# EAGLE library part XC2VP125* (library Xilinx_VirtexII_Pro)
Xilinx Virtex II Pro Device
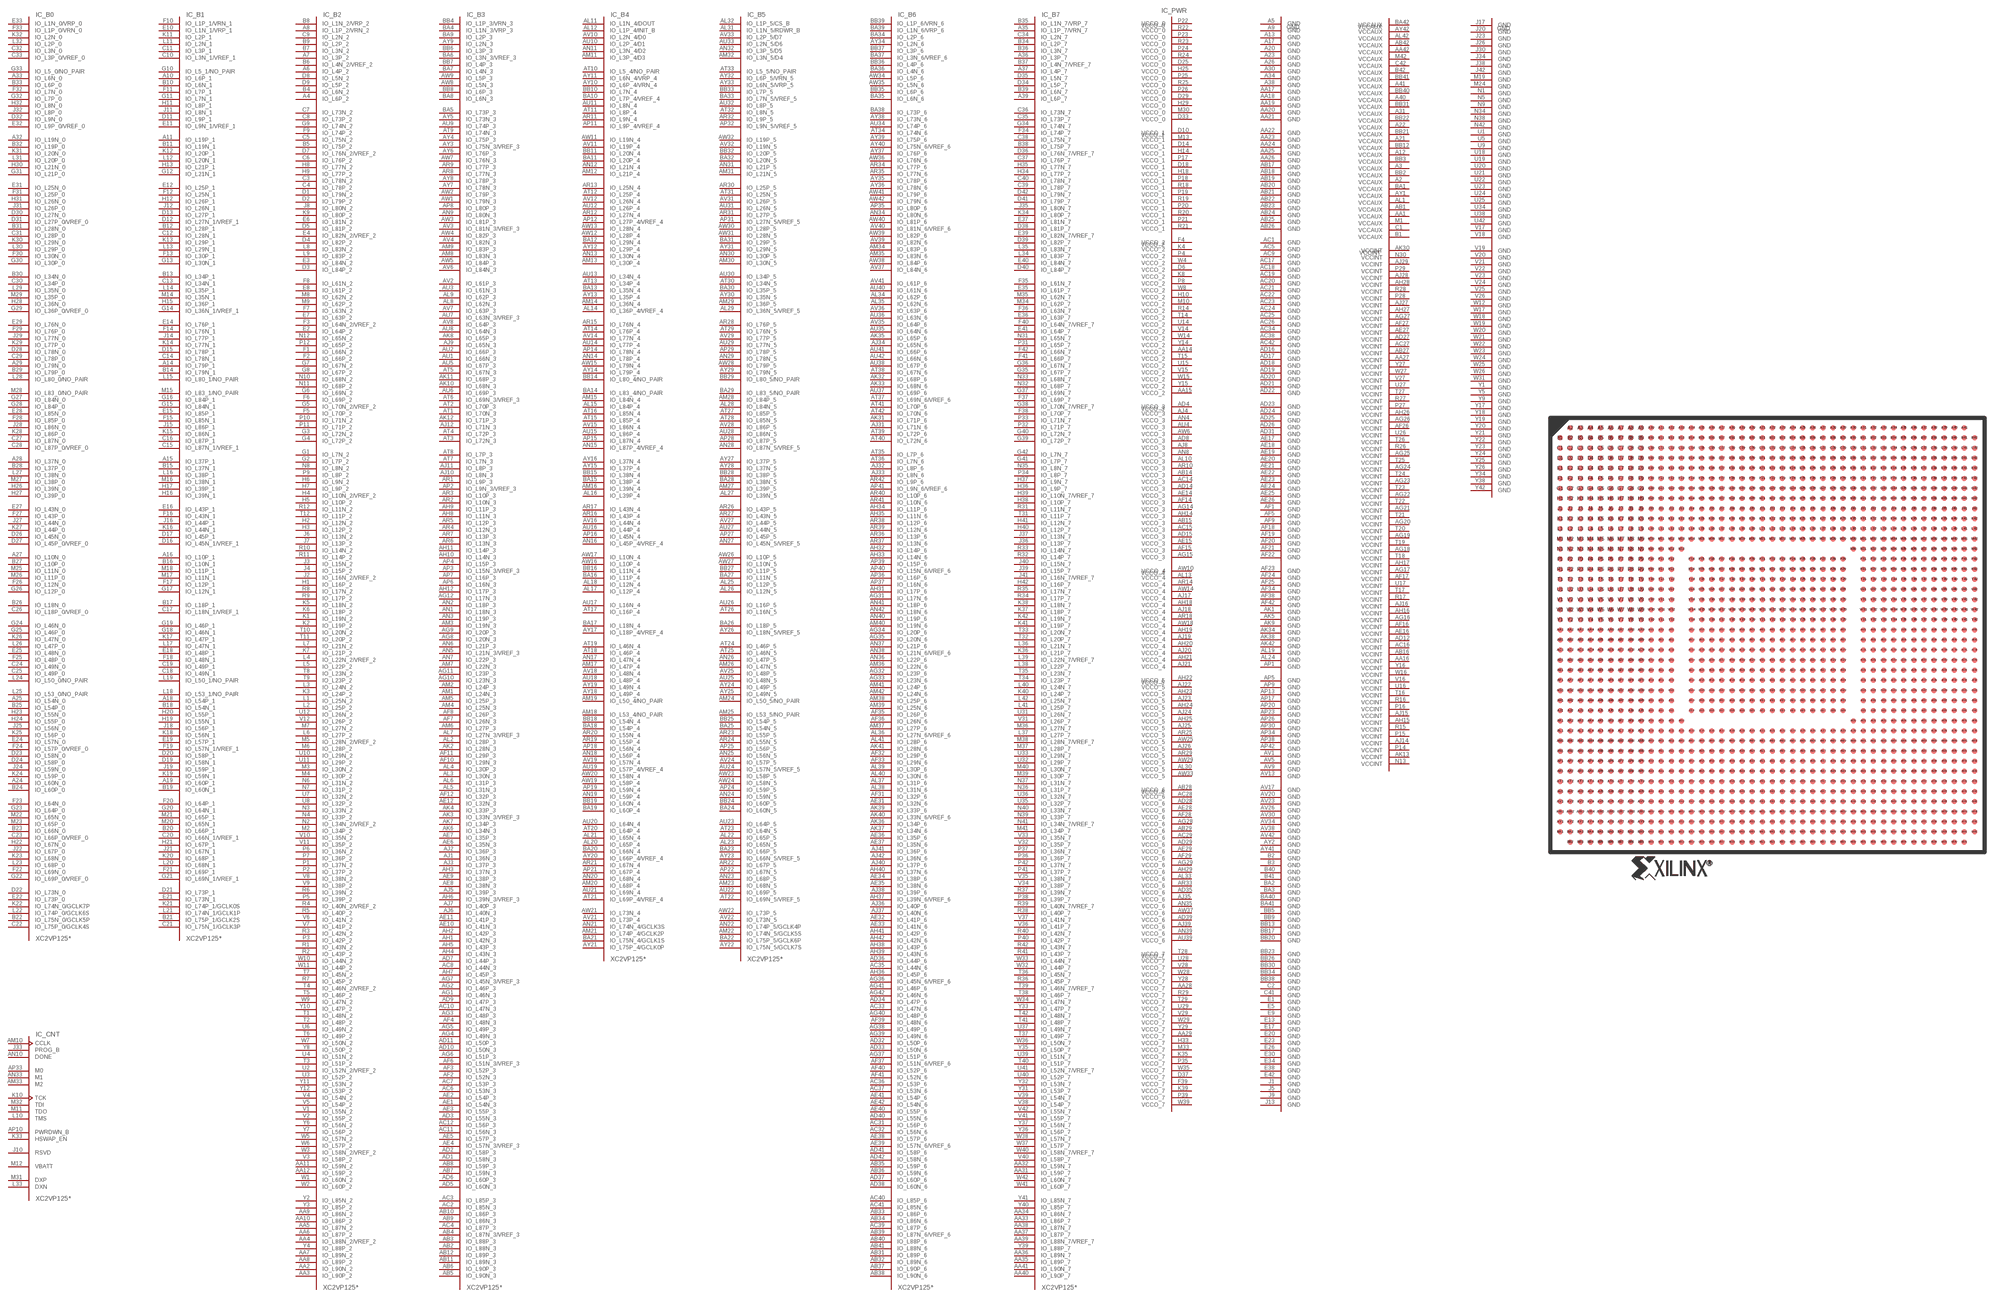
[diagram p1: symbol with the pads of FF1696; footprint FF1696]

Designator prefix IC; gates _B0=XC2VP125-FF1696_B0 _B2=XC2VP125-FF1696_B2 _B3=XC2VP125-FF1696_B3 _B6=XC2VP125-FF1696_B6 _B7=XC2VP125-FF1696_B7 _CNT=XC2VP125-FF1696_CNT _B1=XC2VP125-FF1696_B1 _B4=XC2VP125-FF1696_B4 _B5=XC2VP125-FF1696_B5 _PWR=XC2VP125-FF1696_PWR

## XC2VP125CFF1696C, XC2VP125FF1696C, XC2VP125IFF1696C  [FF1696]
A2  _PWR:VCCAUX  pwr
A3  _PWR:VCCAUX  pwr
A4  _B2:IO_L6P_2
A5  _PWR:GND  pwr
A6  _B2:IO_L4P_2
A7  _B2:IO_L3P_2
A8  _B2:IO_L1P_2/VRN_2
A9  _PWR:GND  pwr
A10  _B1:IO_L6P_1
A11  _B1:IO_L19P_1
A12  _PWR:VCCAUX  pwr
A13  _PWR:GND  pwr
A14  _B1:IO_L79P_1
A15  _B1:IO_L37P_1
A16  _B1:IO_L10P_1
A17  _PWR:GND  pwr
A18  _B1:IO_L54P_1
A19  _B1:IO_L60P_1
A20  _PWR:GND  pwr
A21  _PWR:VCCAUX  pwr
A22  _PWR:VCCAUX  pwr
A23  _PWR:GND  pwr
A24  _B0:IO_L60N_0
A25  _B0:IO_L54N_0
A26  _PWR:GND  pwr
A27  _B0:IO_L10N_0
A28  _B0:IO_L37N_0
A29  _B0:IO_L79N_0
A30  _PWR:GND  pwr
A31  _PWR:VCCAUX  pwr
A32  _B0:IO_L19N_0
A33  _B0:IO_L6N_0
A34  _PWR:GND  pwr
A35  _B7:IO_L1P_7/VRN_7
A36  _B7:IO_L3P_7
A37  _B7:IO_L4P_7
A38  _PWR:GND  pwr
A39  _B7:IO_L6P_7
A40  _PWR:VCCAUX  pwr
A41  _PWR:VCCAUX  pwr
AA1  _PWR:VCCAUX  pwr
AA2  _B2:IO_L90N_2
AA3  _B2:IO_L90P_2
AA4  _B2:IO_L88N_2/VREF_2
AA5  _B2:IO_L87N_2
AA6  _B2:IO_L87P_2
AA7  _B2:IO_L89N_2
AA8  _B2:IO_L89P_2
AA9  _B2:IO_L86N_2
AA10  _B2:IO_L86P_2
AA11  _B2:IO_L59N_2
AA12  _B2:IO_L59P_2
AA14  _PWR:VCCO_2  pwr
AA15  _PWR:VCCO_2  pwr
AA16  _PWR:VCCINT  pwr
AA17  _PWR:GND  pwr
AA18  _PWR:GND  pwr
AA19  _PWR:GND  pwr
AA20  _PWR:GND  pwr
AA21  _PWR:GND  pwr
AA22  _PWR:GND  pwr
AA23  _PWR:GND  pwr
AA24  _PWR:GND  pwr
AA25  _PWR:GND  pwr
AA26  _PWR:GND  pwr
AA27  _PWR:VCCINT  pwr
AA28  _PWR:VCCO_7  pwr
AA29  _PWR:VCCO_7  pwr
AA31  _B7:IO_L59P_7
AA32  _B7:IO_L59N_7
AA33  _B7:IO_L86P_7
AA34  _B7:IO_L86N_7
AA35  _B7:IO_L89P_7
AA36  _B7:IO_L89N_7
AA37  _B7:IO_L87P_7
AA38  _B7:IO_L87N_7
AA39  _B7:IO_L88N_7/VREF_7
AA40  _B7:IO_L90P_7
AA41  _B7:IO_L90N_7
AA42  _PWR:VCCAUX  pwr
AB1  _PWR:VCCAUX  pwr
AB2  _B3:IO_L88N_3
AB3  _B3:IO_L88P_3
AB4  _B3:IO_L87N_3/VREF_3
AB5  _B3:IO_L90N_3
AB6  _B3:IO_L90P_3
AB7  _B3:IO_L59N_3
AB8  _B3:IO_L59P_3
AB9  _B3:IO_L86N_3
AB10  _B3:IO_L86P_3
AB11  _B3:IO_L89N_3
AB12  _B3:IO_L89P_3
AB14  _PWR:VCCO_3  pwr
AB15  _PWR:VCCO_3  pwr
AB16  _PWR:VCCINT  pwr
AB17  _PWR:GND  pwr
AB18  _PWR:GND  pwr
AB19  _PWR:GND  pwr
AB20  _PWR:GND  pwr
AB21  _PWR:GND  pwr
AB22  _PWR:GND  pwr
AB23  _PWR:GND  pwr
AB24  _PWR:GND  pwr
AB25  _PWR:GND  pwr
AB26  _PWR:GND  pwr
AB27  _PWR:VCCINT  pwr
AB28  _PWR:VCCO_6  pwr
AB29  _PWR:VCCO_6  pwr
AB31  _B6:IO_L89P_6
AB32  _B6:IO_L89N_6
AB33  _B6:IO_L86P_6
AB34  _B6:IO_L86N_6
AB35  _B6:IO_L59P_6
AB36  _B6:IO_L59N_6
AB37  _B6:IO_L90P_6
AB38  _B6:IO_L90N_6
AB39  _B6:IO_L87N_6/VREF_6
AB40  _B6:IO_L88P_6
AB41  _B6:IO_L88N_6
AB42  _PWR:VCCAUX  pwr
AC1  _PWR:GND  pwr
AC2  _B3:IO_L85N_3
AC3  _B3:IO_L85P_3
AC4  _B3:IO_L87P_3
AC5  _PWR:GND  pwr
AC6  _B3:IO_L53N_3
AC7  _B3:IO_L53P_3
AC8  _B3:IO_L44N_3
AC9  _PWR:GND  pwr
AC10  _B3:IO_L47N_3
AC11  _B3:IO_L56N_3
AC12  _B3:IO_L56P_3
AC14  _PWR:VCCO_3  pwr
AC15  _PWR:VCCO_3  pwr
AC16  _PWR:VCCINT  pwr
AC17  _PWR:GND  pwr
AC18  _PWR:GND  pwr
AC19  _PWR:GND  pwr
AC20  _PWR:GND  pwr
AC21  _PWR:GND  pwr
AC22  _PWR:GND  pwr
AC23  _PWR:GND  pwr
AC24  _PWR:GND  pwr
AC25  _PWR:GND  pwr
AC26  _PWR:GND  pwr
AC27  _PWR:VCCINT  pwr
AC28  _PWR:VCCO_6  pwr
AC29  _PWR:VCCO_6  pwr
AC31  _B6:IO_L56P_6
AC32  _B6:IO_L56N_6
AC33  _B6:IO_L47N_6
AC34  _PWR:GND  pwr
AC35  _B6:IO_L44N_6
AC36  _B6:IO_L53P_6
AC37  _B6:IO_L53N_6
AC38  _PWR:GND  pwr
AC39  _B6:IO_L87P_6
AC40  _B6:IO_L85P_6
AC41  _B6:IO_L85N_6
AC42  _PWR:GND  pwr
AD1  _B3:IO_L58N_3
AD2  _B3:IO_L58P_3
AD3  _B3:IO_L55N_3
AD4  _PWR:VCCO_3  pwr
AD5  _B3:IO_L60N_3
AD6  _B3:IO_L60P_3
AD7  _B3:IO_L44P_3
AD8  _PWR:VCCO_3  pwr
AD9  _B3:IO_L47P_3
AD10  _B3:IO_L50N_3
AD11  _B3:IO_L50P_3
AD12  _PWR:VCCINT  pwr
AD14  _PWR:VCCO_3  pwr
AD15  _PWR:VCCO_3  pwr
AD16  _PWR:GND  pwr
AD17  _PWR:GND  pwr
AD18  _PWR:GND  pwr
AD19  _PWR:GND  pwr
AD20  _PWR:GND  pwr
AD21  _PWR:GND  pwr
AD22  _PWR:GND  pwr
AD23  _PWR:GND  pwr
AD24  _PWR:GND  pwr
AD25  _PWR:GND  pwr
AD26  _PWR:GND  pwr
AD27  _PWR:VCCINT  pwr
AD28  _PWR:VCCO_6  pwr
AD29  _PWR:VCCO_6  pwr
AD31  _PWR:GND  pwr
AD32  _B6:IO_L50P_6
AD33  _B6:IO_L50N_6
AD34  _B6:IO_L47P_6
AD35  _PWR:VCCO_6  pwr
AD36  _B6:IO_L44P_6
AD37  _B6:IO_L60P_6
AD38  _B6:IO_L60N_6
AD39  _PWR:VCCO_6  pwr
AD40  _B6:IO_L55N_6
AD41  _B6:IO_L58P_6
AD42  _B6:IO_L58N_6
AE1  _B3:IO_L54N_3
AE2  _B3:IO_L54P_3
AE3  _B3:IO_L55P_3
AE4  _B3:IO_L57N_3/VREF_3
AE5  _B3:IO_L57P_3
AE6  _B3:IO_L35N_3
AE7  _B3:IO_L35P_3
AE8  _B3:IO_L38N_3
AE9  _B3:IO_L38P_3
AE10  _B3:IO_L41N_3
AE11  _B3:IO_L41P_3
AE12  _B3:IO_L32N_3
AE14  _PWR:VCCO_3  pwr
AE15  _PWR:VCCO_3  pwr
AE16  _PWR:VCCINT  pwr
AE17  _PWR:GND  pwr
AE18  _PWR:GND  pwr
AE19  _PWR:GND  pwr
AE20  _PWR:GND  pwr
AE21  _PWR:GND  pwr
AE22  _PWR:GND  pwr
AE23  _PWR:GND  pwr
AE24  _PWR:GND  pwr
AE25  _PWR:GND  pwr
AE26  _PWR:GND  pwr
AE27  _PWR:VCCINT  pwr
AE28  _PWR:VCCO_6  pwr
AE29  _PWR:VCCO_6  pwr
AE31  _B6:IO_L32N_6
AE32  _B6:IO_L41P_6
AE33  _B6:IO_L41N_6
AE34  _B6:IO_L38P_6
AE35  _B6:IO_L38N_6
AE36  _B6:IO_L35P_6
AE37  _B6:IO_L35N_6
AE38  _B6:IO_L57P_6
AE39  _B6:IO_L57N_6/VREF_6
AE40  _B6:IO_L55P_6
AE41  _B6:IO_L54P_6
AE42  _B6:IO_L54N_6
AF1  _PWR:GND  pwr
AF2  _B3:IO_L52N_3
AF3  _B3:IO_L52P_3
AF4  _B3:IO_L48N_3
AF5  _PWR:GND  pwr
AF6  _B3:IO_L51N_3/VREF_3
AF7  _B3:IO_L26N_3
AF8  _B3:IO_L26P_3
AF9  _PWR:GND  pwr
AF10  _B3:IO_L29N_3
AF11  _B3:IO_L29P_3
AF12  _B3:IO_L32P_3
AF14  _PWR:VCCO_3  pwr
AF15  _PWR:VCCO_3  pwr
AF16  _PWR:VCCINT  pwr
AF17  _PWR:VCCINT  pwr
AF18  _PWR:GND  pwr
AF19  _PWR:GND  pwr
AF20  _PWR:GND  pwr
AF21  _PWR:GND  pwr
AF22  _PWR:GND  pwr
AF23  _PWR:GND  pwr
AF24  _PWR:GND  pwr
AF25  _PWR:GND  pwr
AF26  _PWR:VCCINT  pwr
AF27  _PWR:VCCINT  pwr
AF28  _PWR:VCCO_6  pwr
AF29  _PWR:VCCO_6  pwr
AF31  _B6:IO_L32P_6
AF32  _B6:IO_L29P_6
AF33  _B6:IO_L29N_6
AF34  _PWR:GND  pwr
AF35  _B6:IO_L26P_6
AF36  _B6:IO_L26N_6
AF37  _B6:IO_L51N_6/VREF_6
AF38  _PWR:GND  pwr
AF39  _B6:IO_L48N_6
AF40  _B6:IO_L52P_6
AF41  _B6:IO_L52N_6
AF42  _PWR:GND  pwr
AG1  _B3:IO_L46N_3
AG2  _B3:IO_L46P_3
AG3  _B3:IO_L48P_3
AG4  _B3:IO_L49N_3
AG5  _B3:IO_L49P_3
AG6  _B3:IO_L51P_3
AG7  _B3:IO_L45N_3/VREF_3
AG8  _B3:IO_L20N_3
AG9  _B3:IO_L20P_3
AG10  _B3:IO_L23N_3
AG11  _B3:IO_L23P_3
AG12  _B3:IO_L17N_3
AG14  _PWR:VCCO_3  pwr
AG15  _PWR:VCCO_3  pwr
AG16  _PWR:VCCINT  pwr
AG17  _PWR:VCCINT  pwr
AG18  _PWR:VCCINT  pwr
AG19  _PWR:VCCINT  pwr
AG20  _PWR:VCCINT  pwr
AG21  _PWR:VCCINT  pwr
AG22  _PWR:VCCINT  pwr
AG23  _PWR:VCCINT  pwr
AG24  _PWR:VCCINT  pwr
AG25  _PWR:VCCINT  pwr
AG26  _PWR:VCCINT  pwr
AG27  _PWR:VCCINT  pwr
AG28  _PWR:VCCO_6  pwr
AG29  _PWR:VCCO_6  pwr
AG31  _B6:IO_L17N_6
AG32  _B6:IO_L23P_6
AG33  _B6:IO_L23N_6
AG34  _B6:IO_L20P_6
AG35  _B6:IO_L20N_6
AG36  _B6:IO_L45N_6/VREF_6
AG37  _B6:IO_L51P_6
AG38  _B6:IO_L49P_6
AG39  _B6:IO_L49N_6
AG40  _B6:IO_L48P_6
AG41  _B6:IO_L46P_6
AG42  _B6:IO_L46N_6
AH1  _B3:IO_L42N_3
AH2  _B3:IO_L42P_3
AH3  _B3:IO_L37N_3
AH4  _B3:IO_L43N_3
AH5  _B3:IO_L43P_3
AH6  _B3:IO_L39N_3/VREF_3
AH7  _B3:IO_L45P_3
AH8  _B3:IO_L11N_3
AH9  _B3:IO_L11P_3
AH10  _B3:IO_L14N_3
AH11  _B3:IO_L14P_3
AH12  _B3:IO_L17P_3
AH14  _PWR:VCCO_3  pwr
AH15  _PWR:VCCINT  pwr
AH16  _PWR:VCCINT  pwr
AH17  _PWR:VCCINT  pwr
AH18  _PWR:VCCO_4  pwr
AH19  _PWR:VCCO_4  pwr
AH20  _PWR:VCCO_4  pwr
AH21  _PWR:VCCO_4  pwr
AH22  _PWR:VCCO_5  pwr
AH23  _PWR:VCCO_5  pwr
AH24  _PWR:VCCO_5  pwr
AH25  _PWR:VCCO_5  pwr
AH26  _PWR:VCCINT  pwr
AH27  _PWR:VCCINT  pwr
AH28  _PWR:VCCINT  pwr
AH29  _PWR:VCCO_6  pwr
AH31  _B6:IO_L17P_6
AH32  _B6:IO_L14P_6
AH33  _B6:IO_L14N_6
AH34  _B6:IO_L11P_6
AH35  _B6:IO_L11N_6
AH36  _B6:IO_L45P_6
AH37  _B6:IO_L39N_6/VREF_6
AH38  _B6:IO_L43P_6
AH39  _B6:IO_L43N_6
AH40  _B6:IO_L37N_6
AH41  _B6:IO_L42P_6
AH42  _B6:IO_L42N_6
AJ1  _B3:IO_L36N_3
AJ2  _B3:IO_L36P_3
AJ3  _B3:IO_L37P_3
AJ4  _PWR:VCCO_3  pwr
AJ5  _B3:IO_L39P_3
AJ6  _B3:IO_L40N_3
AJ7  _B3:IO_L40P_3
AJ8  _PWR:VCCO_3  pwr
AJ9  _B3:IO_L65N_3
AJ10  _B3:IO_L8N_3
AJ11  _B3:IO_L8P_3
AJ12  _B3:IO_L71N_3
AJ14  _PWR:VCCINT  pwr
AJ15  _PWR:VCCINT  pwr
AJ16  _PWR:VCCINT  pwr
AJ17  _PWR:VCCO_4  pwr
AJ18  _PWR:VCCO_4  pwr
AJ19  _PWR:VCCO_4  pwr
AJ20  _PWR:VCCO_4  pwr
AJ21  _PWR:VCCO_4  pwr
AJ22  _PWR:VCCO_5  pwr
AJ23  _PWR:VCCO_5  pwr
AJ24  _PWR:VCCO_5  pwr
AJ25  _PWR:VCCO_5  pwr
AJ26  _PWR:VCCO_5  pwr
AJ27  _PWR:VCCINT  pwr
AJ28  _PWR:VCCINT  pwr
AJ29  _PWR:VCCINT  pwr
AJ31  _B6:IO_L71N_6
AJ32  _B6:IO_L8P_6
AJ33  _B6:IO_L8N_6
AJ34  _B6:IO_L65N_6
AJ35  _PWR:VCCO_6  pwr
AJ36  _B6:IO_L40P_6
AJ37  _B6:IO_L40N_6
AJ38  _B6:IO_L39P_6
AJ39  _PWR:VCCO_6  pwr
AJ40  _B6:IO_L37P_6
AJ41  _B6:IO_L36P_6
AJ42  _B6:IO_L36N_6
AK1  _PWR:GND  pwr
AK2  _B3:IO_L28N_3
AK3  _B3:IO_L33N_3/VREF_3
AK4  _B3:IO_L33P_3
AK5  _PWR:GND  pwr
AK6  _B3:IO_L34N_3
AK7  _B3:IO_L34P_3
AK8  _B3:IO_L65P_3
AK9  _PWR:GND  pwr
AK10  _B3:IO_L68N_3
AK11  _B3:IO_L68P_3
AK12  _B3:IO_L71P_3
AK13  _PWR:VCCINT  pwr
AK30  _PWR:VCCINT  pwr
AK31  _B6:IO_L71P_6
AK32  _B6:IO_L68P_6
AK33  _B6:IO_L68N_6
AK34  _PWR:GND  pwr
AK35  _B6:IO_L65P_6
AK36  _B6:IO_L34P_6
AK37  _B6:IO_L34N_6
AK38  _PWR:GND  pwr
AK39  _B6:IO_L33P_6
AK40  _B6:IO_L33N_6/VREF_6
AK41  _B6:IO_L28N_6
AK42  _PWR:GND  pwr
AL1  _PWR:VCCAUX  pwr
AL2  _B3:IO_L28P_3
AL3  _B3:IO_L30N_3
AL4  _B3:IO_L30P_3
AL5  _B3:IO_L31N_3
AL6  _B3:IO_L31P_3
AL7  _B3:IO_L27N_3/VREF_3
AL8  _B3:IO_L62N_3
AL9  _B3:IO_L62P_3
AL10  _PWR:VCCO_3  pwr
AL11  _B4:IO_L1N_4/DOUT
AL12  _B4:IO_L1P_4/INIT_B
AL13  _PWR:VCCO_4  pwr
AL14  _B4:IO_L36P_4/VREF_4
AL15  _B4:IO_L84P_4
AL16  _B4:IO_L39P_4
AL17  _B4:IO_L12P_4
AL18  _B4:IO_L12N_4
AL19  _PWR:GND  pwr
AL20  _B4:IO_L65P_4
AL21  _B4:IO_L65N_4
AL22  _B5:IO_L65P_5
AL23  _B5:IO_L65N_5
AL24  _PWR:GND  pwr
AL25  _B5:IO_L12P_5
AL26  _B5:IO_L12N_5
AL27  _B5:IO_L39N_5
AL28  _B5:IO_L84N_5
AL29  _B5:IO_L36N_5/VREF_5
AL30  _PWR:VCCO_5  pwr
AL31  _B5:IO_L1N_5/RDWR_B
AL32  _B5:IO_L1P_5/CS_B
AL33  _PWR:VCCO_6  pwr
AL34  _B6:IO_L62P_6
AL35  _B6:IO_L62N_6
AL36  _B6:IO_L27N_6/VREF_6
AL37  _B6:IO_L31P_6
AL38  _B6:IO_L31N_6
AL39  _B6:IO_L30P_6
AL40  _B6:IO_L30N_6
AL41  _B6:IO_L28P_6
AL42  _PWR:VCCAUX  pwr
AM1  _B3:IO_L24N_3
AM2  _B3:IO_L24P_3
AM3  _B3:IO_L19N_3
AM4  _B3:IO_L25N_3
AM5  _B3:IO_L25P_3
AM6  _B3:IO_L27P_3
AM7  _B3:IO_L22N_3
AM8  _B3:IO_L83N_3
AM9  _B3:IO_L83P_3
AM10  _CNT:CCLK  in
AM11  _B4:IO_L3P_4/D3
AM12  _B4:IO_L21P_4
AM13  _B4:IO_L30P_4
AM14  _B4:IO_L36N_4
AM15  _B4:IO_L84N_4
AM16  _B4:IO_L39N_4
AM17  _B4:IO_L47P_4
AM18  _B4:IO_L53_4/NO_PAIR
AM19  _B4:IO_L50_4/NO_PAIR
AM20  _B4:IO_L68P_4
AM21  _B4:IO_L74P_4/GCLK2P
AM22  _B5:IO_L74N_5/GCLK5S
AM23  _B5:IO_L68N_5
AM24  _B5:IO_L50_5/NO_PAIR
AM25  _B5:IO_L53_5/NO_PAIR
AM26  _B5:IO_L47N_5
AM27  _B5:IO_L39P_5
AM28  _B5:IO_L84P_5
AM29  _B5:IO_L36P_5
AM30  _B5:IO_L30N_5
AM31  _B5:IO_L21N_5
AM32  _B5:IO_L3N_5/D4
AM33  _CNT:M2  in
AM34  _B6:IO_L83P_6
AM35  _B6:IO_L83N_6
AM36  _B6:IO_L22N_6
AM37  _B6:IO_L27P_6
AM38  _B6:IO_L25P_6
AM39  _B6:IO_L25N_6
AM40  _B6:IO_L19N_6
AM41  _B6:IO_L24P_6
AM42  _B6:IO_L24N_6
AN1  _B3:IO_L18N_3
AN2  _B3:IO_L18P_3
AN3  _B3:IO_L19P_3
AN4  _PWR:VCCO_3  pwr
AN5  _B3:IO_L21N_3/VREF_3
AN6  _B3:IO_L21P_3
AN7  _B3:IO_L22P_3
AN8  _PWR:VCCO_3  pwr
AN9  _B3:IO_L80N_3
AN10  _CNT:DONE
AN11  _B4:IO_L3N_4/D2
AN12  _B4:IO_L21N_4
AN13  _B4:IO_L30N_4
AN14  _B4:IO_L78P_4
AN15  _B4:IO_L87P_4/VREF_4
AN16  _B4:IO_L45P_4/VREF_4
AN17  _B4:IO_L47N_4
AN18  _B4:IO_L56P_4
AN19  _B4:IO_L59P_4
AN20  _B4:IO_L68N_4
AN21  _B4:IO_L74N_4/GCLK3S
AN22  _B5:IO_L74P_5/GCLK4P
AN23  _B5:IO_L68P_5
AN24  _B5:IO_L59N_5
AN25  _B5:IO_L56N_5
AN26  _B5:IO_L47P_5
AN27  _B5:IO_L45N_5/VREF_5
AN28  _B5:IO_L87N_5/VREF_5
AN29  _B5:IO_L78N_5
AN30  _B5:IO_L30P_5
AN31  _B5:IO_L21P_5
AN32  _B5:IO_L3P_5/D5
AN33  _CNT:M1  in
AN34  _B6:IO_L80N_6
AN35  _PWR:VCCO_6  pwr
AN36  _B6:IO_L22P_6
AN37  _B6:IO_L21P_6
AN38  _B6:IO_L21N_6/VREF_6
AN39  _PWR:VCCO_6  pwr
AN40  _B6:IO_L19P_6
AN41  _B6:IO_L18P_6
AN42  _B6:IO_L18N_6
AP1  _PWR:GND  pwr
AP2  _B3:IO_L9N_3/VREF_3
AP3  _B3:IO_L15N_3/VREF_3
AP4  _B3:IO_L15P_3
AP5  _PWR:GND  pwr
AP6  _B3:IO_L16N_3
AP7  _B3:IO_L16P_3
AP8  _B3:IO_L80P_3
AP9  _PWR:GND  pwr
AP10  _CNT:PWRDWN_B  in
AP11  _B4:IO_L9P_4/VREF_4
AP12  _B4:IO_L27P_4/VREF_4
AP13  _PWR:GND  pwr
AP14  _B4:IO_L78N_4
AP15  _B4:IO_L87N_4
AP16  _B4:IO_L45N_4
AP17  _PWR:GND  pwr
AP18  _B4:IO_L56N_4
AP19  _B4:IO_L59N_4
AP20  _PWR:GND  pwr
AP21  _B4:IO_L67P_4
AP22  _B5:IO_L67N_5
AP23  _PWR:GND  pwr
AP24  _B5:IO_L59P_5
AP25  _B5:IO_L56P_5
AP26  _PWR:GND  pwr
AP27  _B5:IO_L45P_5
AP28  _B5:IO_L87P_5
AP29  _B5:IO_L78P_5
AP30  _PWR:GND  pwr
AP31  _B5:IO_L27N_5/VREF_5
AP32  _B5:IO_L9N_5/VREF_5
AP33  _CNT:M0  in
AP34  _PWR:GND  pwr
AP35  _B6:IO_L80P_6
AP36  _B6:IO_L16P_6
AP37  _B6:IO_L16N_6
AP38  _PWR:GND  pwr
AP39  _B6:IO_L15P_6
AP40  _B6:IO_L15N_6/VREF_6
AP41  _B6:IO_L9N_6/VREF_6
AP42  _PWR:GND  pwr
AR1  _B3:IO_L9P_3
AR2  _B3:IO_L10N_3
AR3  _B3:IO_L10P_3
AR4  _B3:IO_L12N_3
AR5  _B3:IO_L12P_3
AR6  _B3:IO_L13N_3
AR7  _B3:IO_L13P_3
AR8  _B3:IO_L77N_3
AR9  _B3:IO_L77P_3
AR10  _PWR:VCCO_3  pwr
AR11  _B4:IO_L9N_4
AR12  _B4:IO_L27N_4
AR13  _B4:IO_L25N_4
AR14  _PWR:VCCO_4  pwr
AR15  _B4:IO_L76N_4
AR16  _B4:IO_L43P_4
AR17  _B4:IO_L43N_4
AR18  _PWR:VCCO_4  pwr
AR19  _B4:IO_L55P_4
AR20  _B4:IO_L55N_4
AR21  _B4:IO_L67N_4
AR22  _B5:IO_L67P_5
AR23  _B5:IO_L55P_5
AR24  _B5:IO_L55N_5
AR25  _PWR:VCCO_5  pwr
AR26  _B5:IO_L43P_5
AR27  _B5:IO_L43N_5
AR28  _B5:IO_L76P_5
AR29  _PWR:VCCO_5  pwr
AR30  _B5:IO_L25P_5
AR31  _B5:IO_L27P_5
AR32  _B5:IO_L9P_5
AR33  _PWR:VCCO_6  pwr
AR34  _B6:IO_L77P_6
AR35  _B6:IO_L77N_6
AR36  _B6:IO_L13P_6
AR37  _B6:IO_L13N_6
AR38  _B6:IO_L12P_6
AR39  _B6:IO_L12N_6
AR40  _B6:IO_L10P_6
AR41  _B6:IO_L10N_6
AR42  _B6:IO_L9P_6
AT1  _B3:IO_L70N_3
AT2  _B3:IO_L70P_3
AT3  _B3:IO_L72N_3
AT4  _B3:IO_L72P_3
AT5  _B3:IO_L67N_3
AT6  _B3:IO_L69N_3/VREF_3
AT7  _B3:IO_L7N_3
AT8  _B3:IO_L7P_3
AT9  _B3:IO_L74N_3
AT10  _B4:IO_L5_4/NO_PAIR
AT11  _B4:IO_L8P_4
AT12  _B4:IO_L25P_4
AT13  _B4:IO_L34P_4
AT14  _B4:IO_L76P_4
AT15  _B4:IO_L85P_4
AT16  _B4:IO_L85N_4
AT17  _B4:IO_L16P_4
AT18  _B4:IO_L46P_4
AT19  _B4:IO_L46N_4
AT20  _B4:IO_L64P_4
AT21  _B4:IO_L69P_4/VREF_4
AT22  _B5:IO_L69N_5/VREF_5
AT23  _B5:IO_L64N_5
AT24  _B5:IO_L46P_5
AT25  _B5:IO_L46N_5
AT26  _B5:IO_L16N_5
AT27  _B5:IO_L85P_5
AT28  _B5:IO_L85N_5
AT29  _B5:IO_L76N_5
AT30  _B5:IO_L34N_5
AT31  _B5:IO_L25N_5
AT32  _B5:IO_L8N_5
AT33  _B5:IO_L5_5/NO_PAIR
AT34  _B6:IO_L74N_6
AT35  _B6:IO_L7P_6
AT36  _B6:IO_L7N_6
AT37  _B6:IO_L69N_6/VREF_6
AT38  _B6:IO_L67N_6
AT39  _B6:IO_L72P_6
AT40  _B6:IO_L72N_6
AT41  _B6:IO_L70P_6
AT42  _B6:IO_L70N_6
AU1  _B3:IO_L66N_3
AU2  _B3:IO_L66P_3
AU3  _B3:IO_L61N_3
AU4  _PWR:VCCO_3  pwr
AU5  _B3:IO_L67P_3
AU6  _B3:IO_L69P_3
AU7  _B3:IO_L63N_3/VREF_3
AU8  _B3:IO_L64N_3
AU9  _B3:IO_L74P_3
AU10  _B4:IO_L2P_4/D1
AU11  _B4:IO_L8N_4
AU12  _B4:IO_L26P_4
AU13  _B4:IO_L34N_4
AU14  _B4:IO_L77P_4
AU15  _B4:IO_L86P_4
AU16  _B4:IO_L44P_4
AU17  _B4:IO_L16N_4
AU18  _B4:IO_L48P_4
AU19  _B4:IO_L57P_4/VREF_4
AU20  _B4:IO_L64N_4
AU21  _B4:IO_L69N_4
AU22  _B5:IO_L69P_5
AU23  _B5:IO_L64P_5
AU24  _B5:IO_L57N_5/VREF_5
AU25  _B5:IO_L48N_5
AU26  _B5:IO_L16P_5
AU27  _B5:IO_L44N_5
AU28  _B5:IO_L86N_5
AU29  _B5:IO_L77N_5
AU30  _B5:IO_L34P_5
AU31  _B5:IO_L26N_5
AU32  _B5:IO_L8P_5
AU33  _B5:IO_L2N_5/D6
AU34  _B6:IO_L74P_6
AU35  _B6:IO_L64N_6
AU36  _B6:IO_L63N_6
AU37  _B6:IO_L69P_6
AU38  _B6:IO_L67P_6
AU39  _PWR:VCCO_6  pwr
AU40  _B6:IO_L61N_6
AU41  _B6:IO_L66P_6
AU42  _B6:IO_L66N_6
AV1  _PWR:GND  pwr
AV2  _B3:IO_L61P_3
AV3  _B3:IO_L81N_3/VREF_3
AV4  _B3:IO_L82N_3
AV5  _PWR:GND  pwr
AV6  _B3:IO_L84N_3
AV7  _B3:IO_L63P_3
AV8  _B3:IO_L64P_3
AV9  _PWR:GND  pwr
AV10  _B4:IO_L2N_4/D0
AV11  _B4:IO_L19P_4
AV12  _B4:IO_L26N_4
AV13  _PWR:GND  pwr
AV14  _B4:IO_L77N_4
AV15  _B4:IO_L86N_4
AV16  _B4:IO_L44N_4
AV17  _PWR:GND  pwr
AV18  _B4:IO_L48N_4
AV19  _B4:IO_L57N_4
AV20  _PWR:GND  pwr
AV21  _B4:IO_L73P_4
AV22  _B5:IO_L73N_5
AV23  _PWR:GND  pwr
AV24  _B5:IO_L57P_5
AV25  _B5:IO_L48P_5
AV26  _PWR:GND  pwr
AV27  _B5:IO_L44P_5
AV28  _B5:IO_L86P_5
AV29  _B5:IO_L77P_5
AV30  _PWR:GND  pwr
AV31  _B5:IO_L26P_5
AV32  _B5:IO_L19N_5
AV33  _B5:IO_L2P_5/D7
AV34  _PWR:GND  pwr
AV35  _B6:IO_L64P_6
AV36  _B6:IO_L63P_6
AV37  _B6:IO_L84N_6
AV38  _PWR:GND  pwr
AV39  _B6:IO_L82N_6
AV40  _B6:IO_L81N_6/VREF_6
AV41  _B6:IO_L61P_6
AV42  _PWR:GND  pwr
AW1  _B3:IO_L79N_3
AW2  _B3:IO_L79P_3
AW3  _B3:IO_L81P_3
AW4  _B3:IO_L82P_3
AW5  _B3:IO_L84P_3
AW6  _PWR:VCCO_3  pwr
AW7  _B3:IO_L76N_3
AW8  _B3:IO_L5N_3
AW9  _B3:IO_L5P_3
AW10  _PWR:VCCO_4  pwr
AW11  _B4:IO_L19N_4
AW12  _B4:IO_L28P_4
AW13  _B4:IO_L28N_4
AW14  _PWR:VCCO_4  pwr
AW15  _B4:IO_L79N_4
AW16  _B4:IO_L10P_4
AW17  _B4:IO_L10N_4
AW18  _PWR:VCCO_4  pwr
AW19  _B4:IO_L58P_4
AW20  _B4:IO_L58N_4
AW21  _B4:IO_L73N_4
AW22  _B5:IO_L73P_5
AW23  _B5:IO_L58P_5
AW24  _B5:IO_L58N_5
AW25  _PWR:VCCO_5  pwr
AW26  _B5:IO_L10P_5
AW27  _B5:IO_L10N_5
AW28  _B5:IO_L79P_5
AW29  _PWR:VCCO_5  pwr
AW30  _B5:IO_L28P_5
AW31  _B5:IO_L28N_5
AW32  _B5:IO_L19P_5
AW33  _PWR:VCCO_5  pwr
AW34  _B6:IO_L5P_6
AW35  _B6:IO_L5N_6
AW36  _B6:IO_L76N_6
AW37  _PWR:VCCO_6  pwr
AW38  _B6:IO_L84P_6
AW39  _B6:IO_L82P_6
AW40  _B6:IO_L81P_6
AW41  _B6:IO_L79P_6
AW42  _B6:IO_L79N_6
AY1  _PWR:VCCAUX  pwr
AY2  _PWR:GND  pwr
AY3  _B3:IO_L75N_3/VREF_3
AY4  _B3:IO_L75P_3
AY5  _B3:IO_L73N_3
AY6  _B3:IO_L76P_3
AY7  _B3:IO_L78N_3
AY8  _B3:IO_L78P_3
AY9  _B3:IO_L2N_3
AY10  _B4:IO_L6P_4/VRN_4
AY11  _B4:IO_L6N_4/VRP_4
AY12  _B4:IO_L29P_4
AY13  _B4:IO_L35P_4
AY14  _B4:IO_L79P_4
AY15  _B4:IO_L37P_4
AY16  _B4:IO_L37N_4
AY17  _B4:IO_L18P_4/VREF_4
AY18  _B4:IO_L49P_4
AY19  _B4:IO_L49N_4
AY20  _B4:IO_L66P_4/VREF_4
AY21  _B4:IO_L75P_4/GCLK0P
AY22  _B5:IO_L75N_5/GCLK7S
AY23  _B5:IO_L66N_5/VREF_5
AY24  _B5:IO_L49P_5
AY25  _B5:IO_L49N_5
AY26  _B5:IO_L18N_5/VREF_5
AY27  _B5:IO_L37P_5
AY28  _B5:IO_L37N_5
AY29  _B5:IO_L79N_5
AY30  _B5:IO_L35N_5
AY31  _B5:IO_L29N_5
AY32  _B5:IO_L6P_5/VRN_5
AY33  _B5:IO_L6N_5/VRP_5
AY34  _B6:IO_L2N_6
AY35  _B6:IO_L78P_6
AY36  _B6:IO_L78N_6
AY37  _B6:IO_L76P_6
AY38  _B6:IO_L73N_6
AY39  _B6:IO_L75P_6
AY40  _B6:IO_L75N_6/VREF_6
AY41  _PWR:GND  pwr
AY42  _PWR:VCCAUX  pwr
B1  _PWR:VCCAUX  pwr
B2  _PWR:GND  pwr
B3  _PWR:GND  pwr
B4  _B2:IO_L6N_2
B5  _B2:IO_L75P_2
B6  _B2:IO_L4N_2/VREF_2
B7  _B2:IO_L3N_2
B8  _B2:IO_L1N_2/VRP_2
B9  _B2:IO_L2P_2
B10  _B1:IO_L6N_1
B11  _B1:IO_L19N_1
B12  _B1:IO_L28P_1
B13  _B1:IO_L34P_1
B14  _B1:IO_L79N_1
B15  _B1:IO_L37N_1
B16  _B1:IO_L10N_1
B17  _B1:IO_L18P_1
B18  _B1:IO_L54N_1
B19  _B1:IO_L60N_1
B20  _B1:IO_L66P_1
B21  _B1:IO_L75P_1/GCLK2S
B22  _B0:IO_L75N_0/GCLK5P
B23  _B0:IO_L66N_0
B24  _B0:IO_L60P_0
B25  _B0:IO_L54P_0
B26  _B0:IO_L18N_0
B27  _B0:IO_L10P_0
B28  _B0:IO_L37P_0
B29  _B0:IO_L79P_0
B30  _B0:IO_L34N_0
B31  _B0:IO_L28N_0
B32  _B0:IO_L19P_0
B33  _B0:IO_L6P_0
B34  _B7:IO_L2P_7
B35  _B7:IO_L1N_7/VRP_7
B36  _B7:IO_L3N_7
B37  _B7:IO_L4N_7/VREF_7
B38  _B7:IO_L75P_7
B39  _B7:IO_L6N_7
B40  _PWR:GND  pwr
B41  _PWR:GND  pwr
B42  _PWR:VCCAUX  pwr
BA1  _PWR:VCCAUX  pwr
BA2  _PWR:GND  pwr
BA3  _PWR:GND  pwr
BA4  _B3:IO_L1N_3/VRP_3
BA5  _B3:IO_L73P_3
BA6  _B3:IO_L3N_3/VREF_3
BA7  _B3:IO_L4N_3
BA8  _B3:IO_L6N_3
BA9  _B3:IO_L2P_3
BA10  _B4:IO_L7P_4/VREF_4
BA11  _B4:IO_L20P_4
BA12  _B4:IO_L29N_4
BA13  _B4:IO_L35N_4
BA14  _B4:IO_L83_4/NO_PAIR
BA15  _B4:IO_L38P_4
BA16  _B4:IO_L11P_4
BA17  _B4:IO_L18N_4
BA18  _B4:IO_L54P_4
BA19  _B4:IO_L60P_4
BA20  _B4:IO_L66N_4
BA21  _B4:IO_L75N_4/GCLK1S
BA22  _B5:IO_L75P_5/GCLK6P
BA23  _B5:IO_L66P_5
BA24  _B5:IO_L60N_5
BA25  _B5:IO_L54N_5
BA26  _B5:IO_L18P_5
BA27  _B5:IO_L11N_5
BA28  _B5:IO_L38N_5
BA29  _B5:IO_L83_5/NO_PAIR
BA30  _B5:IO_L35P_5
BA31  _B5:IO_L29P_5
BA32  _B5:IO_L20N_5
BA33  _B5:IO_L7N_5/VREF_5
BA34  _B6:IO_L2P_6
BA35  _B6:IO_L6N_6
BA36  _B6:IO_L4N_6
BA37  _B6:IO_L3N_6/VREF_6
BA38  _B6:IO_L73P_6
BA39  _B6:IO_L1N_6/VRP_6
BA40  _PWR:GND  pwr
BA41  _PWR:GND  pwr
BA42  _PWR:VCCAUX  pwr
BB2  _PWR:VCCAUX  pwr
BB3  _PWR:VCCAUX  pwr
BB4  _B3:IO_L1P_3/VRN_3
BB5  _PWR:GND  pwr
BB6  _B3:IO_L3P_3
BB7  _B3:IO_L4P_3
BB8  _B3:IO_L6P_3
BB9  _PWR:GND  pwr
BB10  _B4:IO_L7N_4
BB11  _B4:IO_L20N_4
BB12  _PWR:VCCAUX  pwr
BB13  _PWR:GND  pwr
BB14  _B4:IO_L80_4/NO_PAIR
BB15  _B4:IO_L38N_4
BB16  _B4:IO_L11N_4
BB17  _PWR:GND  pwr
BB18  _B4:IO_L54N_4
BB19  _B4:IO_L60N_4
BB20  _PWR:GND  pwr
BB21  _PWR:VCCAUX  pwr
BB22  _PWR:VCCAUX  pwr
BB23  _PWR:GND  pwr
BB24  _B5:IO_L60P_5
BB25  _B5:IO_L54P_5
BB26  _PWR:GND  pwr
BB27  _B5:IO_L11P_5
BB28  _B5:IO_L38P_5
BB29  _B5:IO_L80_5/NO_PAIR
BB30  _PWR:GND  pwr
BB31  _PWR:VCCAUX  pwr
BB32  _B5:IO_L20P_5
BB33  _B5:IO_L7P_5
BB34  _PWR:GND  pwr
BB35  _B6:IO_L6P_6
BB36  _B6:IO_L4P_6
BB37  _B6:IO_L3P_6
BB38  _PWR:GND  pwr
BB39  _B6:IO_L1P_6/VRN_6
BB40  _PWR:VCCAUX  pwr
BB41  _PWR:VCCAUX  pwr
C1  _PWR:VCCAUX  pwr
C2  _PWR:GND  pwr
C3  _B2:IO_L78N_2
C4  _B2:IO_L78P_2
C5  _B2:IO_L75N_2
C6  _B2:IO_L76P_2
C7  _B2:IO_L73N_2
C8  _B2:IO_L73P_2
C9  _B2:IO_L2N_2
C10  _B1:IO_L3N_1/VREF_1
C11  _B1:IO_L3P_1
C12  _B1:IO_L28N_1
C13  _B1:IO_L34N_1
C14  _B1:IO_L78N_1
C15  _B1:IO_L87N_1/VREF_1
C16  _B1:IO_L87P_1
C17  _B1:IO_L18N_1/VREF_1
C18  _B1:IO_L49N_1
C19  _B1:IO_L49P_1
C20  _B1:IO_L66N_1/VREF_1
C21  _B1:IO_L75N_1/GCLK3P
C22  _B0:IO_L75P_0/GCLK4S
C23  _B0:IO_L66P_0/VREF_0
C24  _B0:IO_L49N_0
C25  _B0:IO_L49P_0
C26  _B0:IO_L18P_0/VREF_0
C27  _B0:IO_L87N_0
C28  _B0:IO_L87P_0/VREF_0
C29  _B0:IO_L78P_0
C30  _B0:IO_L34P_0
C31  _B0:IO_L28P_0
C32  _B0:IO_L3N_0
C33  _B0:IO_L3P_0/VREF_0
C34  _B7:IO_L2N_7
C35  _B7:IO_L73P_7
C36  _B7:IO_L73N_7
C37  _B7:IO_L76P_7
C38  _B7:IO_L75N_7
C39  _B7:IO_L78P_7
C40  _B7:IO_L78N_7
C41  _PWR:GND  pwr
C42  _PWR:VCCAUX  pwr
D1  _B2:IO_L79N_2
D2  _B2:IO_L79P_2
D3  _B2:IO_L84P_2
D4  _B2:IO_L82P_2
D5  _B2:IO_L81P_2
D6  _PWR:VCCO_2  pwr
D7  _B2:IO_L76N_2/VREF_2
D8  _B2:IO_L5N_2
D9  _B2:IO_L5P_2
D10  _PWR:VCCO_1  pwr
D11  _B1:IO_L9P_1
D12  _B1:IO_L27N_1/VREF_1
D13  _B1:IO_L27P_1
D14  _PWR:VCCO_1  pwr
D15  _B1:IO_L78P_1
D16  _B1:IO_L45N_1/VREF_1
D17  _B1:IO_L45P_1
D18  _PWR:VCCO_1  pwr
D19  _B1:IO_L58N_1
D20  _B1:IO_L58P_1
D21  _B1:IO_L73P_1
D22  _B0:IO_L73N_0
D23  _B0:IO_L58N_0
D24  _B0:IO_L58P_0
D25  _PWR:VCCO_0  pwr
D26  _B0:IO_L45N_0
D27  _B0:IO_L45P_0/VREF_0
D28  _B0:IO_L78N_0
D29  _PWR:VCCO_0  pwr
D30  _B0:IO_L27N_0
D31  _B0:IO_L27P_0/VREF_0
D32  _B0:IO_L9N_0
D33  _PWR:VCCO_0  pwr
D34  _B7:IO_L5P_7
D35  _B7:IO_L5N_7
D36  _B7:IO_L76N_7/VREF_7
D37  _PWR:VCCO_7  pwr
D38  _B7:IO_L81P_7
D39  _B7:IO_L82P_7
D40  _B7:IO_L84P_7
D41  _B7:IO_L79P_7
D42  _B7:IO_L79N_7
E1  _PWR:GND  pwr
E2  _B2:IO_L64P_2
E3  _B2:IO_L84N_2
E4  _B2:IO_L82N_2/VREF_2
E5  _PWR:GND  pwr
E6  _B2:IO_L81N_2
E7  _B2:IO_L63P_2
E8  _B2:IO_L61P_2
E9  _PWR:GND  pwr
E10  _B1:IO_L1N_1/VRP_1
E11  _B1:IO_L9N_1/VREF_1
E12  _B1:IO_L25P_1
E13  _PWR:GND  pwr
E14  _B1:IO_L76P_1
E15  _B1:IO_L85P_1
E16  _B1:IO_L43P_1
E17  _PWR:GND  pwr
E18  _B1:IO_L48P_1
E19  _B1:IO_L57P_1
E20  _PWR:GND  pwr
E21  _B1:IO_L73N_1
E22  _B0:IO_L73P_0
E23  _PWR:GND  pwr
E24  _B0:IO_L57N_0
E25  _B0:IO_L48N_0
E26  _PWR:GND  pwr
E27  _B0:IO_L43N_0
E28  _B0:IO_L85N_0
E29  _B0:IO_L76N_0
E30  _PWR:GND  pwr
E31  _B0:IO_L25N_0
E32  _B0:IO_L9P_0/VREF_0
E33  _B0:IO_L1N_0/VRP_0
E34  _PWR:GND  pwr
E35  _B7:IO_L61P_7
E36  _B7:IO_L63P_7
E37  _B7:IO_L81N_7
E38  _PWR:GND  pwr
E39  _B7:IO_L82N_7/VREF_7
E40  _B7:IO_L84N_7
E41  _B7:IO_L64P_7
E42  _PWR:GND  pwr
F1  _B2:IO_L66N_2
F2  _B2:IO_L66P_2
F3  _B2:IO_L64N_2/VREF_2
F4  _PWR:VCCO_2  pwr
F5  _B2:IO_L70P_2
F6  _B2:IO_L69P_2
F7  _B2:IO_L63N_2
F8  _B2:IO_L61N_2
F9  _B2:IO_L74P_2
F10  _B1:IO_L1P_1/VRN_1
F11  _B1:IO_L7P_1
F12  _B1:IO_L25N_1
F13  _B1:IO_L30P_1
F14  _B1:IO_L76N_1
F15  _B1:IO_L85N_1
F16  _B1:IO_L43N_1
F17  _B1:IO_L12P_1
F18  _B1:IO_L48N_1
F19  _B1:IO_L57N_1/VREF_1
F20  _B1:IO_L64P_1
F21  _B1:IO_L69P_1
F22  _B0:IO_L69N_0
F23  _B0:IO_L64N_0
F24  _B0:IO_L57P_0/VREF_0
F25  _B0:IO_L48P_0
F26  _B0:IO_L12N_0
F27  _B0:IO_L43P_0
F28  _B0:IO_L85P_0
F29  _B0:IO_L76P_0
F30  _B0:IO_L30N_0
F31  _B0:IO_L25P_0
F32  _B0:IO_L7N_0
F33  _B0:IO_L1P_0/VRN_0
F34  _B7:IO_L74P_7
F35  _B7:IO_L61N_7
F36  _B7:IO_L63N_7
F37  _B7:IO_L69P_7
F38  _B7:IO_L70P_7
F39  _PWR:VCCO_7  pwr
F40  _B7:IO_L64N_7/VREF_7
F41  _B7:IO_L66P_7
F42  _B7:IO_L66N_7
G1  _B2:IO_L7N_2
G2  _B2:IO_L7P_2
G3  _B2:IO_L72N_2
G4  _B2:IO_L72P_2
G5  _B2:IO_L70N_2/VREF_2
G6  _B2:IO_L69N_2
G7  _B2:IO_L67N_2
G8  _B2:IO_L67P_2
G9  _B2:IO_L74N_2
G10  _B1:IO_L5_1/NO_PAIR
G11  _B1:IO_L7N_1
G12  _B1:IO_L21N_1
G13  _B1:IO_L30N_1
G14  _B1:IO_L36N_1/VREF_1
G15  _B1:IO_L84N_1
G16  _B1:IO_L84P_1
G17  _B1:IO_L12N_1
G18  _B1:IO_L46N_1
G19  _B1:IO_L46P_1
G20  _B1:IO_L64N_1
G21  _B1:IO_L69N_1/VREF_1
G22  _B0:IO_L69P_0/VREF_0
G23  _B0:IO_L64P_0
G24  _B0:IO_L46N_0
G25  _B0:IO_L46P_0
G26  _B0:IO_L12P_0
G27  _B0:IO_L84N_0
G28  _B0:IO_L84P_0
G29  _B0:IO_L36P_0/VREF_0
G30  _B0:IO_L30P_0
G31  _B0:IO_L21P_0
G32  _B0:IO_L7P_0
G33  _B0:IO_L5_0/NO_PAIR
G34  _B7:IO_L74N_7
G35  _B7:IO_L67P_7
G36  _B7:IO_L67N_7
G37  _B7:IO_L69N_7
G38  _B7:IO_L70N_7/VREF_7
G39  _B7:IO_L72P_7
G40  _B7:IO_L72N_7
G41  _B7:IO_L7P_7
G42  _B7:IO_L7N_7
H1  _B2:IO_L16P_2
H2  _B2:IO_L12N_2
H3  _B2:IO_L12P_2
H4  _B2:IO_L10N_2/VREF_2
H5  _B2:IO_L10P_2
H6  _B2:IO_L9N_2
H7  _B2:IO_L9P_2
H8  _B2:IO_L77N_2
H9  _B2:IO_L77P_2
H10  _PWR:VCCO_2  pwr
H11  _B1:IO_L8P_1
H12  _B1:IO_L26P_1
H13  _B1:IO_L21P_1
H14  _PWR:VCCO_1  pwr
H15  _B1:IO_L36P_1
H16  _B1:IO_L39N_1
H17  _B1:IO_L39P_1
H18  _PWR:VCCO_1  pwr
H19  _B1:IO_L55N_1
H20  _B1:IO_L55P_1
H21  _B1:IO_L67P_1
H22  _B0:IO_L67N_0
H23  _B0:IO_L55N_0
H24  _B0:IO_L55P_0
H25  _PWR:VCCO_0  pwr
H26  _B0:IO_L39N_0
H27  _B0:IO_L39P_0
H28  _B0:IO_L36N_0
H29  _PWR:VCCO_0  pwr
H30  _B0:IO_L21N_0
H31  _B0:IO_L26N_0
H32  _B0:IO_L8N_0
H33  _PWR:VCCO_7  pwr
H34  _B7:IO_L77P_7
H35  _B7:IO_L77N_7
H36  _B7:IO_L9P_7
H37  _B7:IO_L9N_7
H38  _B7:IO_L10P_7
H39  _B7:IO_L10N_7/VREF_7
H40  _B7:IO_L12P_7
H41  _B7:IO_L12N_7
H42  _B7:IO_L16P_7
J1  _PWR:GND  pwr
J2  _B2:IO_L16N_2/VREF_2
J3  _B2:IO_L15N_2
J4  _B2:IO_L15P_2
J5  _PWR:GND  pwr
J6  _B2:IO_L13N_2
J7  _B2:IO_L13P_2
J8  _B2:IO_L80N_2
J9  _PWR:GND  pwr
J10  _CNT:RSVD  nc
J11  _B1:IO_L8N_1
J12  _B1:IO_L26N_1
J13  _PWR:GND  pwr
J14  _B1:IO_L77P_1
J15  _B1:IO_L86P_1
J16  _B1:IO_L44P_1
J17  _PWR:GND  pwr
J18  _B1:IO_L56P_1
J19  _B1:IO_L59P_1
J20  _PWR:GND  pwr
J21  _B1:IO_L67N_1
J22  _B0:IO_L67P_0
J23  _PWR:GND  pwr
J24  _B0:IO_L59N_0
J25  _B0:IO_L56N_0
J26  _PWR:GND  pwr
J27  _B0:IO_L44N_0
J28  _B0:IO_L86N_0
J29  _B0:IO_L77N_0
J30  _PWR:GND  pwr
J31  _B0:IO_L26P_0
J32  _B0:IO_L8P_0
J33  _CNT:PROG_B  in
J34  _PWR:GND  pwr
J35  _B7:IO_L80N_7
J36  _B7:IO_L13P_7
J37  _B7:IO_L13N_7
J38  _PWR:GND  pwr
J39  _B7:IO_L15P_7
J40  _B7:IO_L15N_7
J41  _B7:IO_L16N_7/VREF_7
J42  _PWR:GND  pwr
K1  _B2:IO_L19N_2
K2  _B2:IO_L19P_2
K3  _B2:IO_L24P_2
K4  _PWR:VCCO_2  pwr
K5  _B2:IO_L18N_2
K6  _B2:IO_L18P_2
K7  _B2:IO_L21P_2
K8  _PWR:VCCO_2  pwr
K9  _B2:IO_L80P_2
K10  _CNT:TCK  in
K11  _B1:IO_L2P_1
K12  _B1:IO_L20P_1
K13  _B1:IO_L29P_1
K14  _B1:IO_L77N_1
K15  _B1:IO_L86N_1
K16  _B1:IO_L44N_1
K17  _B1:IO_L47P_1
K18  _B1:IO_L56N_1
K19  _B1:IO_L59N_1
K20  _B1:IO_L68P_1
K21  _B1:IO_L74P_1/GCLK0S
K22  _B0:IO_L74N_0/GCLK7P
K23  _B0:IO_L68N_0
K24  _B0:IO_L59P_0
K25  _B0:IO_L56P_0
K26  _B0:IO_L47N_0
K27  _B0:IO_L44P_0
K28  _B0:IO_L86P_0
K29  _B0:IO_L77P_0
K30  _B0:IO_L29N_0
K31  _B0:IO_L20N_0
K32  _B0:IO_L2N_0
K33  _CNT:HSWAP_EN  in
K34  _B7:IO_L80P_7
K35  _PWR:VCCO_7  pwr
K36  _B7:IO_L21P_7
K37  _B7:IO_L18P_7
K38  _B7:IO_L18N_7
K39  _PWR:VCCO_7  pwr
K40  _B7:IO_L24P_7
K41  _B7:IO_L19P_7
K42  _B7:IO_L19N_7
L1  _B2:IO_L25N_2
L2  _B2:IO_L25P_2
L3  _B2:IO_L24N_2
L4  _B2:IO_L22N_2/VREF_2
L5  _B2:IO_L22P_2
L6  _B2:IO_L27P_2
L7  _B2:IO_L21N_2
L8  _B2:IO_L83N_2
L9  _B2:IO_L83P_2
L10  _CNT:TMS  in
L11  _B1:IO_L2N_1
L12  _B1:IO_L20N_1
L13  _B1:IO_L29N_1
L14  _B1:IO_L35P_1
L15  _B1:IO_L80_1/NO_PAIR
L16  _B1:IO_L38P_1
L17  _B1:IO_L47N_1
L18  _B1:IO_L53_1/NO_PAIR
L19  _B1:IO_L50_1/NO_PAIR
L20  _B1:IO_L68N_1
L21  _B1:IO_L74N_1/GCLK1P
L22  _B0:IO_L74P_0/GCLK6S
L23  _B0:IO_L68P_0
L24  _B0:IO_L50_0/NO_PAIR
L25  _B0:IO_L53_0/NO_PAIR
L26  _B0:IO_L47P_0
L27  _B0:IO_L38N_0
L28  _B0:IO_L80_0/NO_PAIR
L29  _B0:IO_L35N_0
L30  _B0:IO_L29P_0
L31  _B0:IO_L20P_0
L32  _B0:IO_L2P_0
L33  _CNT:DXN  nc
L34  _B7:IO_L83P_7
L35  _B7:IO_L83N_7
L36  _B7:IO_L21N_7
L37  _B7:IO_L27P_7
L38  _B7:IO_L22P_7
L39  _B7:IO_L22N_7/VREF_7
L40  _B7:IO_L24N_7
L41  _B7:IO_L25P_7
L42  _B7:IO_L25N_7
M1  _PWR:VCCAUX  pwr
M2  _B2:IO_L34P_2
M3  _B2:IO_L30N_2
M4  _B2:IO_L30P_2
M5  _B2:IO_L28N_2/VREF_2
M6  _B2:IO_L28P_2
M7  _B2:IO_L27N_2
M8  _B2:IO_L62N_2
M9  _B2:IO_L62P_2
M10  _PWR:VCCO_2  pwr
M11  _CNT:TDO  out
M12  _CNT:VBATT  pwr
M13  _PWR:VCCO_1  pwr
M14  _B1:IO_L35N_1
M15  _B1:IO_L83_1/NO_PAIR
M16  _B1:IO_L38N_1
M17  _B1:IO_L11N_1
M18  _B1:IO_L11P_1
M19  _PWR:GND  pwr
M20  _B1:IO_L65N_1
M21  _B1:IO_L65P_1
M22  _B0:IO_L65N_0
M23  _B0:IO_L65P_0
M24  _PWR:GND  pwr
M25  _B0:IO_L11N_0
M26  _B0:IO_L11P_0
M27  _B0:IO_L38P_0
M28  _B0:IO_L83_0/NO_PAIR
M29  _B0:IO_L35P_0
M30  _PWR:VCCO_0  pwr
M31  _CNT:DXP  nc
M32  _CNT:TDI  in
M33  _PWR:VCCO_7  pwr
M34  _B7:IO_L62P_7
M35  _B7:IO_L62N_7
M36  _B7:IO_L27N_7
M37  _B7:IO_L28P_7
M38  _B7:IO_L28N_7/VREF_7
M39  _B7:IO_L30P_7
M40  _B7:IO_L30N_7
M41  _B7:IO_L34P_7
M42  _PWR:VCCAUX  pwr
N1  _PWR:GND  pwr
N2  _B2:IO_L34N_2/VREF_2
N3  _B2:IO_L33N_2
N4  _B2:IO_L33P_2
N5  _PWR:GND  pwr
N6  _B2:IO_L31N_2
N7  _B2:IO_L31P_2
N8  _B2:IO_L8N_2
N9  _PWR:GND  pwr
N10  _B2:IO_L68N_2
N11  _B2:IO_L68P_2
N12  _B2:IO_L65N_2
N13  _PWR:VCCINT  pwr
N30  _PWR:VCCINT  pwr
N31  _B7:IO_L65N_7
N32  _B7:IO_L68P_7
N33  _B7:IO_L68N_7
N34  _PWR:GND  pwr
N35  _B7:IO_L8N_7
N36  _B7:IO_L31P_7
N37  _B7:IO_L31N_7
N38  _PWR:GND  pwr
N39  _B7:IO_L33P_7
N40  _B7:IO_L33N_7
N41  _B7:IO_L34N_7/VREF_7
N42  _PWR:GND  pwr
P1  _B2:IO_L37N_2
P2  _B2:IO_L37P_2
P3  _B2:IO_L42P_2
P4  _PWR:VCCO_2  pwr
P5  _B2:IO_L39P_2
P6  _B2:IO_L36N_2
P7  _B2:IO_L36P_2
P8  _PWR:VCCO_2  pwr
P9  _B2:IO_L8P_2
P10  _B2:IO_L71N_2
P11  _B2:IO_L71P_2
P12  _B2:IO_L65P_2
P14  _PWR:VCCINT  pwr
P15  _PWR:VCCINT  pwr
P16  _PWR:VCCINT  pwr
P17  _PWR:VCCO_1  pwr
P18  _PWR:VCCO_1  pwr
P19  _PWR:VCCO_1  pwr
P20  _PWR:VCCO_1  pwr
P21  _PWR:VCCO_1  pwr
P22  _PWR:VCCO_0  pwr
P23  _PWR:VCCO_0  pwr
P24  _PWR:VCCO_0  pwr
P25  _PWR:VCCO_0  pwr
P26  _PWR:VCCO_0  pwr
P27  _PWR:VCCINT  pwr
P28  _PWR:VCCINT  pwr
P29  _PWR:VCCINT  pwr
P31  _B7:IO_L65P_7
P32  _B7:IO_L71P_7
P33  _B7:IO_L71N_7
P34  _B7:IO_L8P_7
P35  _PWR:VCCO_7  pwr
P36  _B7:IO_L36P_7
P37  _B7:IO_L36N_7
P38  _B7:IO_L39P_7
P39  _PWR:VCCO_7  pwr
P40  _B7:IO_L42P_7
P41  _B7:IO_L37P_7
P42  _B7:IO_L37N_7
R1  _B2:IO_L43N_2
R2  _B2:IO_L43P_2
R3  _B2:IO_L42N_2
R4  _B2:IO_L40N_2/VREF_2
R5  _B2:IO_L40P_2
R6  _B2:IO_L39N_2
R7  _B2:IO_L45P_2
R8  _B2:IO_L17N_2
R9  _B2:IO_L17P_2
R10  _B2:IO_L14N_2
R11  _B2:IO_L14P_2
R12  _B2:IO_L11N_2
R14  _PWR:VCCO_2  pwr
R15  _PWR:VCCINT  pwr
R16  _PWR:VCCINT  pwr
R17  _PWR:VCCINT  pwr
R18  _PWR:VCCO_1  pwr
R19  _PWR:VCCO_1  pwr
R20  _PWR:VCCO_1  pwr
R21  _PWR:VCCO_1  pwr
R22  _PWR:VCCO_0  pwr
R23  _PWR:VCCO_0  pwr
R24  _PWR:VCCO_0  pwr
R25  _PWR:VCCO_0  pwr
R26  _PWR:VCCINT  pwr
R27  _PWR:VCCINT  pwr
R28  _PWR:VCCINT  pwr
R29  _PWR:VCCO_7  pwr
R31  _B7:IO_L11N_7
R32  _B7:IO_L14P_7
R33  _B7:IO_L14N_7
R34  _B7:IO_L17P_7
R35  _B7:IO_L17N_7
R36  _B7:IO_L45P_7
R37  _B7:IO_L39N_7
R38  _B7:IO_L40P_7
R39  _B7:IO_L40N_7/VREF_7
R40  _B7:IO_L42N_7
R41  _B7:IO_L43P_7
R42  _B7:IO_L43N_7
T1  _B2:IO_L48N_2
T2  _B2:IO_L48P_2
T3  _B2:IO_L51P_2
T4  _B2:IO_L46N_2/VREF_2
T5  _B2:IO_L46P_2
T6  _B2:IO_L49P_2
T7  _B2:IO_L45N_2
T8  _B2:IO_L23N_2
T9  _B2:IO_L23P_2
T10  _B2:IO_L20N_2
T11  _B2:IO_L20P_2
T12  _B2:IO_L11P_2
T14  _PWR:VCCO_2  pwr
T15  _PWR:VCCO_2  pwr
T16  _PWR:VCCINT  pwr
T17  _PWR:VCCINT  pwr
T18  _PWR:VCCINT  pwr
T19  _PWR:VCCINT  pwr
T20  _PWR:VCCINT  pwr
T21  _PWR:VCCINT  pwr
T22  _PWR:VCCINT  pwr
T23  _PWR:VCCINT  pwr
T24  _PWR:VCCINT  pwr
T25  _PWR:VCCINT  pwr
T26  _PWR:VCCINT  pwr
T27  _PWR:VCCINT  pwr
T28  _PWR:VCCO_7  pwr
T29  _PWR:VCCO_7  pwr
T31  _B7:IO_L11P_7
T32  _B7:IO_L20P_7
T33  _B7:IO_L20N_7
T34  _B7:IO_L23P_7
T35  _B7:IO_L23N_7
T36  _B7:IO_L45N_7
T37  _B7:IO_L49P_7
T38  _B7:IO_L46P_7
T39  _B7:IO_L46N_7/VREF_7
T40  _B7:IO_L51P_7
T41  _B7:IO_L48P_7
T42  _B7:IO_L48N_7
U1  _PWR:GND  pwr
U2  _B2:IO_L52N_2/VREF_2
U3  _B2:IO_L52P_2
U4  _B2:IO_L51N_2
U5  _PWR:GND  pwr
U6  _B2:IO_L49N_2
U7  _B2:IO_L32N_2
U8  _B2:IO_L32P_2
U9  _PWR:GND  pwr
U10  _B2:IO_L29N_2
U11  _B2:IO_L29P_2
U12  _B2:IO_L26N_2
U14  _PWR:VCCO_2  pwr
U15  _PWR:VCCO_2  pwr
U16  _PWR:VCCINT  pwr
U17  _PWR:VCCINT  pwr
U18  _PWR:GND  pwr
U19  _PWR:GND  pwr
U20  _PWR:GND  pwr
U21  _PWR:GND  pwr
U22  _PWR:GND  pwr
U23  _PWR:GND  pwr
U24  _PWR:GND  pwr
U25  _PWR:GND  pwr
U26  _PWR:VCCINT  pwr
U27  _PWR:VCCINT  pwr
U28  _PWR:VCCO_7  pwr
U29  _PWR:VCCO_7  pwr
U31  _B7:IO_L26N_7
U32  _B7:IO_L29P_7
U33  _B7:IO_L29N_7
U34  _PWR:GND  pwr
U35  _B7:IO_L32P_7
U36  _B7:IO_L32N_7
U37  _B7:IO_L49N_7
U38  _PWR:GND  pwr
U39  _B7:IO_L51N_7
U40  _B7:IO_L52P_7
U41  _B7:IO_L52N_7/VREF_7
U42  _PWR:GND  pwr
V1  _B2:IO_L55N_2
V2  _B2:IO_L55P_2
V3  _B2:IO_L58P_2
V4  _B2:IO_L54N_2
V5  _B2:IO_L54P_2
V6  _B2:IO_L41N_2
V7  _B2:IO_L41P_2
V8  _B2:IO_L38N_2
V9  _B2:IO_L38P_2
V10  _B2:IO_L35N_2
V11  _B2:IO_L35P_2
V12  _B2:IO_L26P_2
V14  _PWR:VCCO_2  pwr
V15  _PWR:VCCO_2  pwr
V16  _PWR:VCCINT  pwr
V17  _PWR:GND  pwr
V18  _PWR:GND  pwr
V19  _PWR:GND  pwr
V20  _PWR:GND  pwr
V21  _PWR:GND  pwr
V22  _PWR:GND  pwr
V23  _PWR:GND  pwr
V24  _PWR:GND  pwr
V25  _PWR:GND  pwr
V26  _PWR:GND  pwr
V27  _PWR:VCCINT  pwr
V28  _PWR:VCCO_7  pwr
V29  _PWR:VCCO_7  pwr
V31  _B7:IO_L26P_7
V32  _B7:IO_L35P_7
V33  _B7:IO_L35N_7
V34  _B7:IO_L38P_7
V35  _B7:IO_L38N_7
V36  _B7:IO_L41P_7
V37  _B7:IO_L41N_7
V38  _B7:IO_L54P_7
V39  _B7:IO_L54N_7
V40  _B7:IO_L58P_7
V41  _B7:IO_L55P_7
V42  _B7:IO_L55N_7
W1  _B2:IO_L60N_2
W2  _B2:IO_L60P_2
W3  _B2:IO_L58N_2/VREF_2
W4  _PWR:VCCO_2  pwr
W5  _B2:IO_L57N_2
W6  _B2:IO_L57P_2
W7  _B2:IO_L50N_2
W8  _PWR:VCCO_2  pwr
W9  _B2:IO_L47N_2
W10  _B2:IO_L44N_2
W11  _B2:IO_L44P_2
W12  _PWR:GND  pwr
W14  _PWR:VCCO_2  pwr
W15  _PWR:VCCO_2  pwr
W16  _PWR:VCCINT  pwr
W17  _PWR:GND  pwr
W18  _PWR:GND  pwr
W19  _PWR:GND  pwr
W20  _PWR:GND  pwr
W21  _PWR:GND  pwr
W22  _PWR:GND  pwr
W23  _PWR:GND  pwr
W24  _PWR:GND  pwr
W25  _PWR:GND  pwr
W26  _PWR:GND  pwr
W27  _PWR:VCCINT  pwr
W28  _PWR:VCCO_7  pwr
W29  _PWR:VCCO_7  pwr
W31  _PWR:GND  pwr
W32  _B7:IO_L44P_7
W33  _B7:IO_L44N_7
W34  _B7:IO_L47N_7
W35  _PWR:VCCO_7  pwr
W36  _B7:IO_L50N_7
W37  _B7:IO_L57P_7
W38  _B7:IO_L57N_7
W39  _PWR:VCCO_7  pwr
W40  _B7:IO_L58N_7/VREF_7
W41  _B7:IO_L60P_7
W42  _B7:IO_L60N_7
Y1  _PWR:GND  pwr
Y2  _B2:IO_L85N_2
Y3  _B2:IO_L85P_2
Y4  _B2:IO_L88P_2
Y5  _PWR:GND  pwr
Y6  _B2:IO_L56N_2
Y7  _B2:IO_L56P_2
Y8  _B2:IO_L50P_2
Y9  _PWR:GND  pwr
Y10  _B2:IO_L47P_2
Y11  _B2:IO_L53N_2
Y12  _B2:IO_L53P_2
Y14  _PWR:VCCO_2  pwr
Y15  _PWR:VCCO_2  pwr
Y16  _PWR:VCCINT  pwr
Y17  _PWR:GND  pwr
Y18  _PWR:GND  pwr
Y19  _PWR:GND  pwr
Y20  _PWR:GND  pwr
Y21  _PWR:GND  pwr
Y22  _PWR:GND  pwr
Y23  _PWR:GND  pwr
Y24  _PWR:GND  pwr
Y25  _PWR:GND  pwr
Y26  _PWR:GND  pwr
Y27  _PWR:VCCINT  pwr
Y28  _PWR:VCCO_7  pwr
Y29  _PWR:VCCO_7  pwr
Y31  _B7:IO_L53P_7
Y32  _B7:IO_L53N_7
Y33  _B7:IO_L47P_7
Y34  _PWR:GND  pwr
Y35  _B7:IO_L50P_7
Y36  _B7:IO_L56P_7
Y37  _B7:IO_L56N_7
Y38  _PWR:GND  pwr
Y39  _B7:IO_L88P_7
Y40  _B7:IO_L85P_7
Y41  _B7:IO_L85N_7
Y42  _PWR:GND  pwr

## Footprint FF1696 (pad centres in mm)
FF1696: Plastic Flip-Chip BGA Package
smd 0.5 x 0.5: A2 -20,20; A3 -19,20; A4 -18,20; A5 -17,20; A6 -16,20; A7 -15,20; A8 -14,20; A9 -13,20; A10 -12,20; A11 -11,20; A12 -10,20; A13 -9,20; A14 -8,20; A15 -7,20; A16 -6,20; A17 -5,20; A18 -4,20; A19 -3,20; A20 -2,20; A21 -1,20; A22 0,20; A23 1,20; A24 2,20; A25 3,20; A26 4,20; A27 5,20; A28 6,20; A29 7,20; A30 8,20; A31 9,20; A32 10,20; A33 11,20; A34 12,20; A35 13,20; A36 14,20; A37 15,20; A38 16,20; A39 17,20; A40 18,20; A41 19,20; AA1 -21,0; AA2 -20,0; AA3 -19,0; AA4 -18,0; AA5 -17,0; AA6 -16,0; AA7 -15,0; AA8 -14,0; AA9 -13,0; AA10 -12,0; AA11 -11,0; AA12 -10,0; AA14 -8,0; AA15 -7,0; AA16 -6,0; AA17 -5,0; AA18 -4,0; AA19 -3,0; AA20 -2,0; AA21 -1,0; AA22 0,0; AA23 1,0; AA24 2,0; AA25 3,0; AA26 4,0; AA27 5,0; AA28 6,0; AA29 7,0; AA31 9,0; AA32 10,0; AA33 11,0; AA34 12,0; AA35 13,0; AA36 14,0; AA37 15,0; AA38 16,0; AA39 17,0; AA40 18,0; AA41 19,0; AA42 20,0; AB1 -21,-1; AB2 -20,-1; AB3 -19,-1; AB4 -18,-1; AB5 -17,-1; AB6 -16,-1; AB7 -15,-1; AB8 -14,-1; AB9 -13,-1; AB10 -12,-1; AB11 -11,-1; AB12 -10,-1; AB14 -8,-1; AB15 -7,-1; AB16 -6,-1; AB17 -5,-1; AB18 -4,-1; AB19 -3,-1; AB20 -2,-1; AB21 -1,-1; AB22 0,-1; AB23 1,-1; AB24 2,-1; AB25 3,-1; AB26 4,-1; AB27 5,-1; AB28 6,-1; AB29 7,-1; AB31 9,-1; AB32 10,-1; AB33 11,-1; AB34 12,-1; AB35 13,-1; AB36 14,-1; AB37 15,-1; AB38 16,-1; AB39 17,-1; AB40 18,-1; AB41 19,-1; AB42 20,-1; AC1 -21,-2; AC2 -20,-2; AC3 -19,-2; AC4 -18,-2; AC5 -17,-2; AC6 -16,-2; AC7 -15,-2; AC8 -14,-2; AC9 -13,-2; AC10 -12,-2; AC11 -11,-2; AC12 -10,-2; AC14 -8,-2; AC15 -7,-2; AC16 -6,-2; AC17 -5,-2; AC18 -4,-2; AC19 -3,-2; AC20 -2,-2; AC21 -1,-2; AC22 0,-2; AC23 1,-2; AC24 2,-2; AC25 3,-2; AC26 4,-2; AC27 5,-2; AC28 6,-2; AC29 7,-2; AC31 9,-2; AC32 10,-2; AC33 11,-2; AC34 12,-2; AC35 13,-2; AC36 14,-2; AC37 15,-2; AC38 16,-2; AC39 17,-2; AC40 18,-2; AC41 19,-2; AC42 20,-2; AD1 -21,-3; AD2 -20,-3; AD3 -19,-3; AD4 -18,-3; AD5 -17,-3; AD6 -16,-3; AD7 -15,-3; AD8 -14,-3; AD9 -13,-3; AD10 -12,-3; AD11 -11,-3; AD12 -10,-3; AD14 -8,-3; AD15 -7,-3; AD16 -6,-3; AD17 -5,-3; AD18 -4,-3; AD19 -3,-3; AD20 -2,-3; AD21 -1,-3; AD22 0,-3; AD23 1,-3; AD24 2,-3; AD25 3,-3; AD26 4,-3; AD27 5,-3; AD28 6,-3; AD29 7,-3; AD31 9,-3; AD32 10,-3; AD33 11,-3; AD34 12,-3; AD35 13,-3; AD36 14,-3; AD37 15,-3; AD38 16,-3; AD39 17,-3; AD40 18,-3; AD41 19,-3; AD42 20,-3; AE1 -21,-4; AE2 -20,-4; AE3 -19,-4; AE4 -18,-4; AE5 -17,-4; AE6 -16,-4; AE7 -15,-4; AE8 -14,-4; AE9 -13,-4; AE10 -12,-4; AE11 -11,-4; AE12 -10,-4; AE14 -8,-4; AE15 -7,-4; AE16 -6,-4; AE17 -5,-4; AE18 -4,-4; AE19 -3,-4; AE20 -2,-4; AE21 -1,-4; AE22 0,-4; AE23 1,-4; AE24 2,-4; AE25 3,-4; AE26 4,-4; AE27 5,-4; AE28 6,-4; AE29 7,-4; AE31 9,-4; AE32 10,-4; AE33 11,-4; AE34 12,-4; AE35 13,-4; AE36 14,-4; AE37 15,-4; AE38 16,-4; AE39 17,-4; AE40 18,-4; AE41 19,-4; AE42 20,-4; AF1 -21,-5; AF2 -20,-5; AF3 -19,-5; AF4 -18,-5; AF5 -17,-5; AF6 -16,-5; AF7 -15,-5; AF8 -14,-5; AF9 -13,-5; AF10 -12,-5; AF11 -11,-5; AF12 -10,-5; AF14 -8,-5; AF15 -7,-5; AF16 -6,-5; AF17 -5,-5; AF18 -4,-5; AF19 -3,-5; AF20 -2,-5; AF21 -1,-5; AF22 0,-5; AF23 1,-5; AF24 2,-5; AF25 3,-5; AF26 4,-5; AF27 5,-5; AF28 6,-5; AF29 7,-5; AF31 9,-5; AF32 10,-5; AF33 11,-5; AF34 12,-5; AF35 13,-5; AF36 14,-5; AF37 15,-5; AF38 16,-5; AF39 17,-5; AF40 18,-5; AF41 19,-5; AF42 20,-5; AG1 -21,-6; AG2 -20,-6; AG3 -19,-6; AG4 -18,-6; AG5 -17,-6; AG6 -16,-6; AG7 -15,-6; AG8 -14,-6; AG9 -13,-6; AG10 -12,-6; AG11 -11,-6; AG12 -10,-6; AG14 -8,-6; AG15 -7,-6; AG16 -6,-6; AG17 -5,-6; AG18 -4,-6; AG19 -3,-6; AG20 -2,-6; AG21 -1,-6; AG22 0,-6; AG23 1,-6; AG24 2,-6; AG25 3,-6; AG26 4,-6; AG27 5,-6; AG28 6,-6; AG29 7,-6; AG31 9,-6; AG32 10,-6; AG33 11,-6; AG34 12,-6; AG35 13,-6; AG36 14,-6; AG37 15,-6; AG38 16,-6; AG39 17,-6; AG40 18,-6; AG41 19,-6; AG42 20,-6; AH1 -21,-7; AH2 -20,-7; AH3 -19,-7; AH4 -18,-7; AH5 -17,-7; AH6 -16,-7; AH7 -15,-7; AH8 -14,-7; AH9 -13,-7; AH10 -12,-7; AH11 -11,-7; AH12 -10,-7; AH14 -8,-7; AH15 -7,-7; AH16 -6,-7; AH17 -5,-7; AH18 -4,-7; AH19 -3,-7; AH20 -2,-7; AH21 -1,-7; AH22 0,-7; AH23 1,-7; AH24 2,-7; AH25 3,-7; AH26 4,-7; AH27 5,-7; AH28 6,-7; AH29 7,-7; AH31 9,-7; AH32 10,-7; AH33 11,-7; AH34 12,-7; AH35 13,-7; AH36 14,-7; AH37 15,-7; AH38 16,-7; AH39 17,-7; AH40 18,-7; AH41 19,-7; AH42 20,-7; AJ1 -21,-8; AJ2 -20,-8; AJ3 -19,-8; AJ4 -18,-8; AJ5 -17,-8; AJ6 -16,-8; AJ7 -15,-8; AJ8 -14,-8; AJ9 -13,-8; AJ10 -12,-8; AJ11 -11,-8; AJ12 -10,-8; AJ14 -8,-8; AJ15 -7,-8; AJ16 -6,-8; AJ17 -5,-8; AJ18 -4,-8; AJ19 -3,-8; AJ20 -2,-8; AJ21 -1,-8; AJ22 0,-8; AJ23 1,-8; AJ24 2,-8; AJ25 3,-8; AJ26 4,-8; AJ27 5,-8; AJ28 6,-8; AJ29 7,-8; AJ31 9,-8; AJ32 10,-8; AJ33 11,-8; AJ34 12,-8; AJ35 13,-8; AJ36 14,-8; AJ37 15,-8; AJ38 16,-8; AJ39 17,-8; AJ40 18,-8; AJ41 19,-8; AJ42 20,-8; AK1 -21,-9; AK2 -20,-9; AK3 -19,-9; AK4 -18,-9; AK5 -17,-9; AK6 -16,-9; AK7 -15,-9; AK8 -14,-9; AK9 -13,-9; AK10 -12,-9; AK11 -11,-9; AK12 -10,-9; AK13 -9,-9; AK30 8,-9; AK31 9,-9; AK32 10,-9; AK33 11,-9; AK34 12,-9; AK35 13,-9; AK36 14,-9; AK37 15,-9; AK38 16,-9; AK39 17,-9; AK40 18,-9; AK41 19,-9; AK42 20,-9; AL1 -21,-10; AL2 -20,-10; AL3 -19,-10; AL4 -18,-10; AL5 -17,-10; AL6 -16,-10; AL7 -15,-10; AL8 -14,-10; AL9 -13,-10; AL10 -12,-10; AL11 -11,-10; AL12 -10,-10; AL13 -9,-10; AL14 -8,-10; AL15 -7,-10; AL16 -6,-10; AL17 -5,-10; AL18 -4,-10; AL19 -3,-10; AL20 -2,-10; AL21 -1,-10; AL22 0,-10; AL23 1,-10; AL24 2,-10; AL25 3,-10; AL26 4,-10; AL27 5,-10; AL28 6,-10; AL29 7,-10; AL30 8,-10; AL31 9,-10; AL32 10,-10; AL33 11,-10; AL34 12,-10; AL35 13,-10; AL36 14,-10; AL37 15,-10; AL38 16,-10; AL39 17,-10; AL40 18,-10; AL41 19,-10; AL42 20,-10; AM1 -21,-11; AM2 -20,-11; AM3 -19,-11; AM4 -18,-11; AM5 -17,-11; AM6 -16,-11; AM7 -15,-11; AM8 -14,-11; AM9 -13,-11; AM10 -12,-11; AM11 -11,-11; AM12 -10,-11; AM13 -9,-11; AM14 -8,-11; AM15 -7,-11; AM16 -6,-11; AM17 -5,-11; AM18 -4,-11; AM19 -3,-11; AM20 -2,-11; AM21 -1,-11; AM22 0,-11; AM23 1,-11; AM24 2,-11; AM25 3,-11; AM26 4,-11; AM27 5,-11; AM28 6,-11; AM29 7,-11; AM30 8,-11; AM31 9,-11; AM32 10,-11; AM33 11,-11; AM34 12,-11; AM35 13,-11; AM36 14,-11; AM37 15,-11; AM38 16,-11; AM39 17,-11; AM40 18,-11; AM41 19,-11; AM42 20,-11; AN1 -21,-12; AN2 -20,-12; AN3 -19,-12; AN4 -18,-12; AN5 -17,-12; AN6 -16,-12; AN7 -15,-12; AN8 -14,-12; AN9 -13,-12; AN10 -12,-12; AN11 -11,-12; AN12 -10,-12; AN13 -9,-12; AN14 -8,-12; AN15 -7,-12; AN16 -6,-12; AN17 -5,-12; AN18 -4,-12; AN19 -3,-12; AN20 -2,-12; AN21 -1,-12; AN22 0,-12; AN23 1,-12; AN24 2,-12; AN25 3,-12; AN26 4,-12; AN27 5,-12; AN28 6,-12; AN29 7,-12; AN30 8,-12; AN31 9,-12; AN32 10,-12; AN33 11,-12; AN34 12,-12; AN35 13,-12; AN36 14,-12; AN37 15,-12; AN38 16,-12; AN39 17,-12; AN40 18,-12; AN41 19,-12; AN42 20,-12; AP1 -21,-13; AP2 -20,-13; AP3 -19,-13; AP4 -18,-13; AP5 -17,-13; AP6 -16,-13; AP7 -15,-13; AP8 -14,-13; AP9 -13,-13; AP10 -12,-13; AP11 -11,-13; AP12 -10,-13; AP13 -9,-13; AP14 -8,-13; AP15 -7,-13; AP16 -6,-13; AP17 -5,-13; AP18 -4,-13; AP19 -3,-13; AP20 -2,-13; AP21 -1,-13; AP22 0,-13; AP23 1,-13; AP24 2,-13; AP25 3,-13; AP26 4,-13; AP27 5,-13; AP28 6,-13; AP29 7,-13; AP30 8,-13; AP31 9,-13; AP32 10,-13; AP33 11,-13; AP34 12,-13; AP35 13,-13; AP36 14,-13; AP37 15,-13; AP38 16,-13; AP39 17,-13; AP40 18,-13; AP41 19,-13; AP42 20,-13; AR1 -21,-14; AR2 -20,-14; AR3 -19,-14; AR4 -18,-14; AR5 -17,-14; AR6 -16,-14; AR7 -15,-14; AR8 -14,-14; AR9 -13,-14; AR10 -12,-14; AR11 -11,-14; AR12 -10,-14; AR13 -9,-14; AR14 -8,-14; AR15 -7,-14; AR16 -6,-14; AR17 -5,-14; AR18 -4,-14; AR19 -3,-14; AR20 -2,-14; AR21 -1,-14; AR22 0,-14; AR23 1,-14; AR24 2,-14; AR25 3,-14; AR26 4,-14; AR27 5,-14; AR28 6,-14; AR29 7,-14; AR30 8,-14; AR31 9,-14; AR32 10,-14; AR33 11,-14; AR34 12,-14; AR35 13,-14; AR36 14,-14; AR37 15,-14; AR38 16,-14; AR39 17,-14; AR40 18,-14; AR41 19,-14; AR42 20,-14; AT1 -21,-15; AT2 -20,-15; AT3 -19,-15; AT4 -18,-15; AT5 -17,-15; AT6 -16,-15; AT7 -15,-15; AT8 -14,-15; AT9 -13,-15; AT10 -12,-15; AT11 -11,-15; AT12 -10,-15; AT13 -9,-15; AT14 -8,-15; AT15 -7,-15; AT16 -6,-15; AT17 -5,-15; AT18 -4,-15; AT19 -3,-15; AT20 -2,-15; AT21 -1,-15; AT22 0,-15; AT23 1,-15; AT24 2,-15; AT25 3,-15; AT26 4,-15; AT27 5,-15; AT28 6,-15; AT29 7,-15; AT30 8,-15; AT31 9,-15; AT32 10,-15; AT33 11,-15; AT34 12,-15; AT35 13,-15; AT36 14,-15; AT37 15,-15; AT38 16,-15; AT39 17,-15; AT40 18,-15; AT41 19,-15; AT42 20,-15; AU1 -21,-16; AU2 -20,-16; AU3 -19,-16; AU4 -18,-16; AU5 -17,-16; AU6 -16,-16; AU7 -15,-16; AU8 -14,-16; AU9 -13,-16; AU10 -12,-16; AU11 -11,-16; AU12 -10,-16; AU13 -9,-16; AU14 -8,-16; AU15 -7,-16; AU16 -6,-16; AU17 -5,-16; AU18 -4,-16; AU19 -3,-16; AU20 -2,-16; AU21 -1,-16; AU22 0,-16; AU23 1,-16; AU24 2,-16; AU25 3,-16; AU26 4,-16; AU27 5,-16; AU28 6,-16; AU29 7,-16; AU30 8,-16; AU31 9,-16; AU32 10,-16; AU33 11,-16; AU34 12,-16; AU35 13,-16; AU36 14,-16; AU37 15,-16; AU38 16,-16; AU39 17,-16; AU40 18,-16; AU41 19,-16; AU42 20,-16; AV1 -21,-17; AV2 -20,-17; AV3 -19,-17; AV4 -18,-17; AV5 -17,-17; AV6 -16,-17; AV7 -15,-17; AV8 -14,-17; AV9 -13,-17; AV10 -12,-17; AV11 -11,-17; AV12 -10,-17; AV13 -9,-17; AV14 -8,-17; AV15 -7,-17; AV16 -6,-17; AV17 -5,-17; AV18 -4,-17; AV19 -3,-17; AV20 -2,-17; AV21 -1,-17; AV22 0,-17; AV23 1,-17; AV24 2,-17; AV25 3,-17; AV26 4,-17; AV27 5,-17; AV28 6,-17; AV29 7,-17; AV30 8,-17; AV31 9,-17; AV32 10,-17; AV33 11,-17; AV34 12,-17; AV35 13,-17; AV36 14,-17; AV37 15,-17; AV38 16,-17; AV39 17,-17; AV40 18,-17; AV41 19,-17; AV42 20,-17; AW1 -21,-18; AW2 -20,-18; AW3 -19,-18; AW4 -18,-18; AW5 -17,-18; AW6 -16,-18; AW7 -15,-18; AW8 -14,-18; AW9 -13,-18; AW10 -12,-18; AW11 -11,-18; AW12 -10,-18; AW13 -9,-18; AW14 -8,-18; AW15 -7,-18; AW16 -6,-18; AW17 -5,-18; AW18 -4,-18; AW19 -3,-18; AW20 -2,-18; AW21 -1,-18; AW22 0,-18; AW23 1,-18; AW24 2,-18; AW25 3,-18; AW26 4,-18; AW27 5,-18; AW28 6,-18; AW29 7,-18; AW30 8,-18; AW31 9,-18; AW32 10,-18; AW33 11,-18; AW34 12,-18; AW35 13,-18; AW36 14,-18; AW37 15,-18; AW38 16,-18; AW39 17,-18; AW40 18,-18; AW41 19,-18; AW42 20,-18; AY1 -21,-19; AY2 -20,-19; AY3 -19,-19; AY4 -18,-19; AY5 -17,-19; AY6 -16,-19; AY7 -15,-19; AY8 -14,-19; AY9 -13,-19; AY10 -12,-19; AY11 -11,-19; AY12 -10,-19; AY13 -9,-19; AY14 -8,-19; AY15 -7,-19; AY16 -6,-19; AY17 -5,-19; AY18 -4,-19; AY19 -3,-19; AY20 -2,-19; AY21 -1,-19; AY22 0,-19; AY23 1,-19; AY24 2,-19; AY25 3,-19; AY26 4,-19; AY27 5,-19; AY28 6,-19; AY29 7,-19; AY30 8,-19; AY31 9,-19; AY32 10,-19; AY33 11,-19; AY34 12,-19; AY35 13,-19; AY36 14,-19; AY37 15,-19; AY38 16,-19; AY39 17,-19; AY40 18,-19; AY41 19,-19; AY42 20,-19; B1 -21,19; B2 -20,19; B3 -19,19; B4 -18,19; B5 -17,19; B6 -16,19; B7 -15,19; B8 -14,19; B9 -13,19; B10 -12,19; B11 -11,19; B12 -10,19; B13 -9,19; B14 -8,19; B15 -7,19; B16 -6,19; B17 -5,19; B18 -4,19; B19 -3,19; B20 -2,19; B21 -1,19; B22 0,19; B23 1,19; B24 2,19; B25 3,19; B26 4,19; B27 5,19; B28 6,19; B29 7,19; B30 8,19; B31 9,19; B32 10,19; B33 11,19; B34 12,19; B35 13,19; B36 14,19; B37 15,19; B38 16,19; B39 17,19; B40 18,19; B41 19,19; B42 20,19; BA1 -21,-20; BA2 -20,-20; BA3 -19,-20; BA4 -18,-20; BA5 -17,-20; BA6 -16,-20; BA7 -15,-20; BA8 -14,-20; BA9 -13,-20; BA10 -12,-20; BA11 -11,-20; BA12 -10,-20; BA13 -9,-20; BA14 -8,-20; BA15 -7,-20; BA16 -6,-20; BA17 -5,-20; BA18 -4,-20; BA19 -3,-20; BA20 -2,-20; BA21 -1,-20; BA22 0,-20; BA23 1,-20; BA24 2,-20; BA25 3,-20; BA26 4,-20; BA27 5,-20; BA28 6,-20; BA29 7,-20; BA30 8,-20; BA31 9,-20; BA32 10,-20; BA33 11,-20; BA34 12,-20; BA35 13,-20; BA36 14,-20; BA37 15,-20; BA38 16,-20; BA39 17,-20; BA40 18,-20; BA41 19,-20; BA42 20,-20; BB2 -20,-21; BB3 -19,-21; BB4 -18,-21; BB5 -17,-21; BB6 -16,-21; BB7 -15,-21; BB8 -14,-21; BB9 -13,-21; BB10 -12,-21; BB11 -11,-21; BB12 -10,-21; BB13 -9,-21; BB14 -8,-21; BB15 -7,-21; BB16 -6,-21; BB17 -5,-21; BB18 -4,-21; BB19 -3,-21; BB20 -2,-21; BB21 -1,-21; BB22 0,-21; BB23 1,-21; BB24 2,-21; BB25 3,-21; BB26 4,-21; BB27 5,-21; BB28 6,-21; BB29 7,-21; BB30 8,-21; BB31 9,-21; BB32 10,-21; BB33 11,-21; BB34 12,-21; BB35 13,-21; BB36 14,-21; BB37 15,-21; BB38 16,-21; BB39 17,-21; BB40 18,-21; BB41 19,-21; C1 -21,18; C2 -20,18; C3 -19,18; C4 -18,18; C5 -17,18; C6 -16,18; C7 -15,18; C8 -14,18; C9 -13,18; C10 -12,18; C11 -11,18; C12 -10,18; C13 -9,18; C14 -8,18; C15 -7,18; C16 -6,18; C17 -5,18; C18 -4,18; C19 -3,18; C20 -2,18; C21 -1,18; C22 0,18; C23 1,18; C24 2,18; C25 3,18; C26 4,18; C27 5,18; C28 6,18; C29 7,18; C30 8,18; C31 9,18; C32 10,18; C33 11,18; C34 12,18; C35 13,18; C36 14,18; C37 15,18; C38 16,18; C39 17,18; C40 18,18; C41 19,18; C42 20,18; D1 -21,17; D2 -20,17; D3 -19,17; D4 -18,17; D5 -17,17; D6 -16,17; D7 -15,17; D8 -14,17; D9 -13,17; D10 -12,17; D11 -11,17; D12 -10,17; D13 -9,17; D14 -8,17; D15 -7,17; D16 -6,17; D17 -5,17; D18 -4,17; D19 -3,17; D20 -2,17; D21 -1,17; D22 0,17; D23 1,17; D24 2,17; D25 3,17; D26 4,17; D27 5,17; D28 6,17; D29 7,17; D30 8,17; D31 9,17; D32 10,17; D33 11,17; D34 12,17; D35 13,17; D36 14,17; D37 15,17; D38 16,17; D39 17,17; D40 18,17; D41 19,17; D42 20,17; E1 -21,16; E2 -20,16; E3 -19,16; E4 -18,16; E5 -17,16; E6 -16,16; E7 -15,16; E8 -14,16; E9 -13,16; E10 -12,16; E11 -11,16; E12 -10,16; E13 -9,16; E14 -8,16; E15 -7,16; E16 -6,16; E17 -5,16; E18 -4,16; E19 -3,16; E20 -2,16; E21 -1,16; E22 0,16; E23 1,16; E24 2,16; E25 3,16; E26 4,16; E27 5,16; E28 6,16; E29 7,16; E30 8,16; E31 9,16; E32 10,16; E33 11,16; E34 12,16; E35 13,16; E36 14,16; E37 15,16; E38 16,16; E39 17,16; E40 18,16; E41 19,16; E42 20,16; F1 -21,15; F2 -20,15; F3 -19,15; F4 -18,15; F5 -17,15; F6 -16,15; F7 -15,15; F8 -14,15; F9 -13,15; F10 -12,15; F11 -11,15; F12 -10,15; F13 -9,15; F14 -8,15; F15 -7,15; F16 -6,15; F17 -5,15; F18 -4,15; F19 -3,15; F20 -2,15; F21 -1,15; F22 0,15; F23 1,15; F24 2,15; F25 3,15; F26 4,15; F27 5,15; F28 6,15; F29 7,15; F30 8,15; F31 9,15; F32 10,15; F33 11,15; F34 12,15; F35 13,15; F36 14,15; F37 15,15; F38 16,15; F39 17,15; F40 18,15; F41 19,15; F42 20,15; G1 -21,14; G2 -20,14; G3 -19,14; G4 -18,14; G5 -17,14; G6 -16,14; G7 -15,14; G8 -14,14; G9 -13,14; G10 -12,14; G11 -11,14; G12 -10,14; G13 -9,14; G14 -8,14; G15 -7,14; G16 -6,14; G17 -5,14; G18 -4,14; G19 -3,14; G20 -2,14; G21 -1,14; G22 0,14; G23 1,14; G24 2,14; G25 3,14; G26 4,14; G27 5,14; G28 6,14; G29 7,14; G30 8,14; G31 9,14; G32 10,14; G33 11,14; G34 12,14; G35 13,14; G36 14,14; G37 15,14; G38 16,14; G39 17,14; G40 18,14; G41 19,14; G42 20,14; H1 -21,13; H2 -20,13; H3 -19,13; H4 -18,13; H5 -17,13; H6 -16,13; H7 -15,13; H8 -14,13; H9 -13,13; H10 -12,13; H11 -11,13; H12 -10,13; H13 -9,13; H14 -8,13; H15 -7,13; H16 -6,13; H17 -5,13; H18 -4,13; H19 -3,13; H20 -2,13; H21 -1,13; H22 0,13; H23 1,13; H24 2,13; H25 3,13; H26 4,13; H27 5,13; H28 6,13; H29 7,13; H30 8,13; H31 9,13; H32 10,13; H33 11,13; H34 12,13; H35 13,13; H36 14,13; H37 15,13; H38 16,13; H39 17,13; H40 18,13; H41 19,13; H42 20,13; J1 -21,12; J2 -20,12; J3 -19,12; J4 -18,12; J5 -17,12; J6 -16,12; J7 -15,12; J8 -14,12; J9 -13,12; J10 -12,12; J11 -11,12; J12 -10,12; J13 -9,12; J14 -8,12; J15 -7,12; J16 -6,12; J17 -5,12; J18 -4,12; J19 -3,12; J20 -2,12; J21 -1,12; J22 0,12; J23 1,12; J24 2,12; J25 3,12; J26 4,12; J27 5,12; J28 6,12; J29 7,12; J30 8,12; J31 9,12; J32 10,12; J33 11,12; J34 12,12; J35 13,12; J36 14,12; J37 15,12; J38 16,12; J39 17,12; J40 18,12; J41 19,12; J42 20,12; K1 -21,11; K2 -20,11; K3 -19,11; K4 -18,11; K5 -17,11; K6 -16,11; K7 -15,11; K8 -14,11; K9 -13,11; K10 -12,11; K11 -11,11; K12 -10,11; K13 -9,11; K14 -8,11; K15 -7,11; K16 -6,11; K17 -5,11; K18 -4,11; K19 -3,11; K20 -2,11; K21 -1,11; K22 0,11; K23 1,11; K24 2,11; K25 3,11; K26 4,11; K27 5,11; K28 6,11; K29 7,11; K30 8,11; K31 9,11; K32 10,11; K33 11,11; K34 12,11; K35 13,11; K36 14,11; K37 15,11; K38 16,11; K39 17,11; K40 18,11; K41 19,11; K42 20,11; L1 -21,10; L2 -20,10; L3 -19,10; L4 -18,10; L5 -17,10; L6 -16,10; L7 -15,10; L8 -14,10; L9 -13,10; L10 -12,10; L11 -11,10; L12 -10,10; L13 -9,10; L14 -8,10; L15 -7,10; L16 -6,10; L17 -5,10; L18 -4,10; L19 -3,10; L20 -2,10; L21 -1,10; L22 0,10; L23 1,10; L24 2,10; L25 3,10; L26 4,10; L27 5,10; L28 6,10; L29 7,10; L30 8,10; L31 9,10; L32 10,10; L33 11,10; L34 12,10; L35 13,10; L36 14,10; L37 15,10; L38 16,10; L39 17,10; L40 18,10; L41 19,10; L42 20,10; M1 -21,9; M2 -20,9; M3 -19,9; M4 -18,9; M5 -17,9; M6 -16,9; M7 -15,9; M8 -14,9; M9 -13,9; M10 -12,9; M11 -11,9; M12 -10,9; M13 -9,9; M14 -8,9; M15 -7,9; M16 -6,9; M17 -5,9; M18 -4,9; M19 -3,9; M20 -2,9; M21 -1,9; M22 0,9; M23 1,9; M24 2,9; M25 3,9; M26 4,9; M27 5,9; M28 6,9; M29 7,9; M30 8,9; M31 9,9; M32 10,9; M33 11,9; M34 12,9; M35 13,9; M36 14,9; M37 15,9; M38 16,9; M39 17,9; M40 18,9; M41 19,9; M42 20,9; N1 -21,8; N2 -20,8; N3 -19,8; N4 -18,8; N5 -17,8; N6 -16,8; N7 -15,8; N8 -14,8; N9 -13,8; N10 -12,8; N11 -11,8; N12 -10,8; N13 -9,8; N30 8,8; N31 9,8; N32 10,8; N33 11,8; N34 12,8; N35 13,8; N36 14,8; N37 15,8; N38 16,8; N39 17,8; N40 18,8; N41 19,8; N42 20,8; P1 -21,7; P2 -20,7; P3 -19,7; P4 -18,7; P5 -17,7; P6 -16,7; P7 -15,7; P8 -14,7; P9 -13,7; P10 -12,7; P11 -11,7; P12 -10,7; P14 -8,7; P15 -7,7; P16 -6,7; P17 -5,7; P18 -4,7; P19 -3,7; P20 -2,7; P21 -1,7; P22 0,7; P23 1,7; P24 2,7; P25 3,7; P26 4,7; P27 5,7; P28 6,7; P29 7,7; P31 9,7; P32 10,7; P33 11,7; P34 12,7; P35 13,7; P36 14,7; P37 15,7; P38 16,7; P39 17,7; P40 18,7; P41 19,7; P42 20,7; R1 -21,6; R2 -20,6; R3 -19,6; R4 -18,6; R5 -17,6; R6 -16,6; R7 -15,6; R8 -14,6; R9 -13,6; R10 -12,6; R11 -11,6; R12 -10,6; R14 -8,6; R15 -7,6; R16 -6,6; R17 -5,6; R18 -4,6; R19 -3,6; R20 -2,6; R21 -1,6; R22 0,6; R23 1,6; R24 2,6; R25 3,6; R26 4,6; R27 5,6; R28 6,6; R29 7,6; R31 9,6; R32 10,6; R33 11,6; R34 12,6; R35 13,6; R36 14,6; R37 15,6; R38 16,6; R39 17,6; R40 18,6; R41 19,6; R42 20,6; T1 -21,5; T2 -20,5; T3 -19,5; T4 -18,5; T5 -17,5; T6 -16,5; T7 -15,5; T8 -14,5; T9 -13,5; T10 -12,5; T11 -11,5; T12 -10,5; T14 -8,5; T15 -7,5; T16 -6,5; T17 -5,5; T18 -4,5; T19 -3,5; T20 -2,5; T21 -1,5; T22 0,5; T23 1,5; T24 2,5; T25 3,5; T26 4,5; T27 5,5; T28 6,5; T29 7,5; T31 9,5; T32 10,5; T33 11,5; T34 12,5; T35 13,5; T36 14,5; T37 15,5; T38 16,5; T39 17,5; T40 18,5; T41 19,5; T42 20,5; U1 -21,4; U2 -20,4; U3 -19,4; U4 -18,4; U5 -17,4; U6 -16,4; U7 -15,4; U8 -14,4; U9 -13,4; U10 -12,4; U11 -11,4; U12 -10,4; U14 -8,4; U15 -7,4; U16 -6,4; U17 -5,4; U18 -4,4; U19 -3,4; U20 -2,4; U21 -1,4; U22 0,4; U23 1,4; U24 2,4; U25 3,4; U26 4,4; U27 5,4; U28 6,4; U29 7,4; U31 9,4; U32 10,4; U33 11,4; U34 12,4; U35 13,4; U36 14,4; U37 15,4; U38 16,4; U39 17,4; U40 18,4; U41 19,4; U42 20,4; V1 -21,3; V2 -20,3; V3 -19,3; V4 -18,3; V5 -17,3; V6 -16,3; V7 -15,3; V8 -14,3; V9 -13,3; V10 -12,3; V11 -11,3; V12 -10,3; V14 -8,3; V15 -7,3; V16 -6,3; V17 -5,3; V18 -4,3; V19 -3,3; V20 -2,3; V21 -1,3; V22 0,3; V23 1,3; V24 2,3; V25 3,3; V26 4,3; V27 5,3; V28 6,3; V29 7,3; V31 9,3; V32 10,3; V33 11,3; V34 12,3; V35 13,3; V36 14,3; V37 15,3; V38 16,3; V39 17,3; V40 18,3; V41 19,3; V42 20,3; W1 -21,2; W2 -20,2; W3 -19,2; W4 -18,2; W5 -17,2; W6 -16,2; W7 -15,2; W8 -14,2; W9 -13,2; W10 -12,2; W11 -11,2; W12 -10,2; W14 -8,2; W15 -7,2; W16 -6,2; W17 -5,2; W18 -4,2; W19 -3,2; W20 -2,2; W21 -1,2; W22 0,2; W23 1,2; W24 2,2; W25 3,2; W26 4,2; W27 5,2; W28 6,2; W29 7,2; W31 9,2; W32 10,2; W33 11,2; W34 12,2; W35 13,2; W36 14,2; W37 15,2; W38 16,2; W39 17,2; W40 18,2; W41 19,2; W42 20,2; Y1 -21,1; Y2 -20,1; Y3 -19,1; Y4 -18,1; Y5 -17,1; Y6 -16,1; Y7 -15,1; Y8 -14,1; Y9 -13,1; Y10 -12,1; Y11 -11,1; Y12 -10,1; Y14 -8,1; Y15 -7,1; Y16 -6,1; Y17 -5,1; Y18 -4,1; Y19 -3,1; Y20 -2,1; Y21 -1,1; Y22 0,1; Y23 1,1; Y24 2,1; Y25 3,1; Y26 4,1; Y27 5,1; Y28 6,1; Y29 7,1; Y31 9,1; Y32 10,1; Y33 11,1; Y34 12,1; Y35 13,1; Y36 14,1; Y37 15,1; Y38 16,1; Y39 17,1; Y40 18,1; Y41 19,1; Y42 20,1